# Altium schematic symbol library Seeed-OPL-ic.SCHLIB: 210 symbols (part 1 of 2)
Pins are listed as number, name and electrical type; pins without a type are passive.

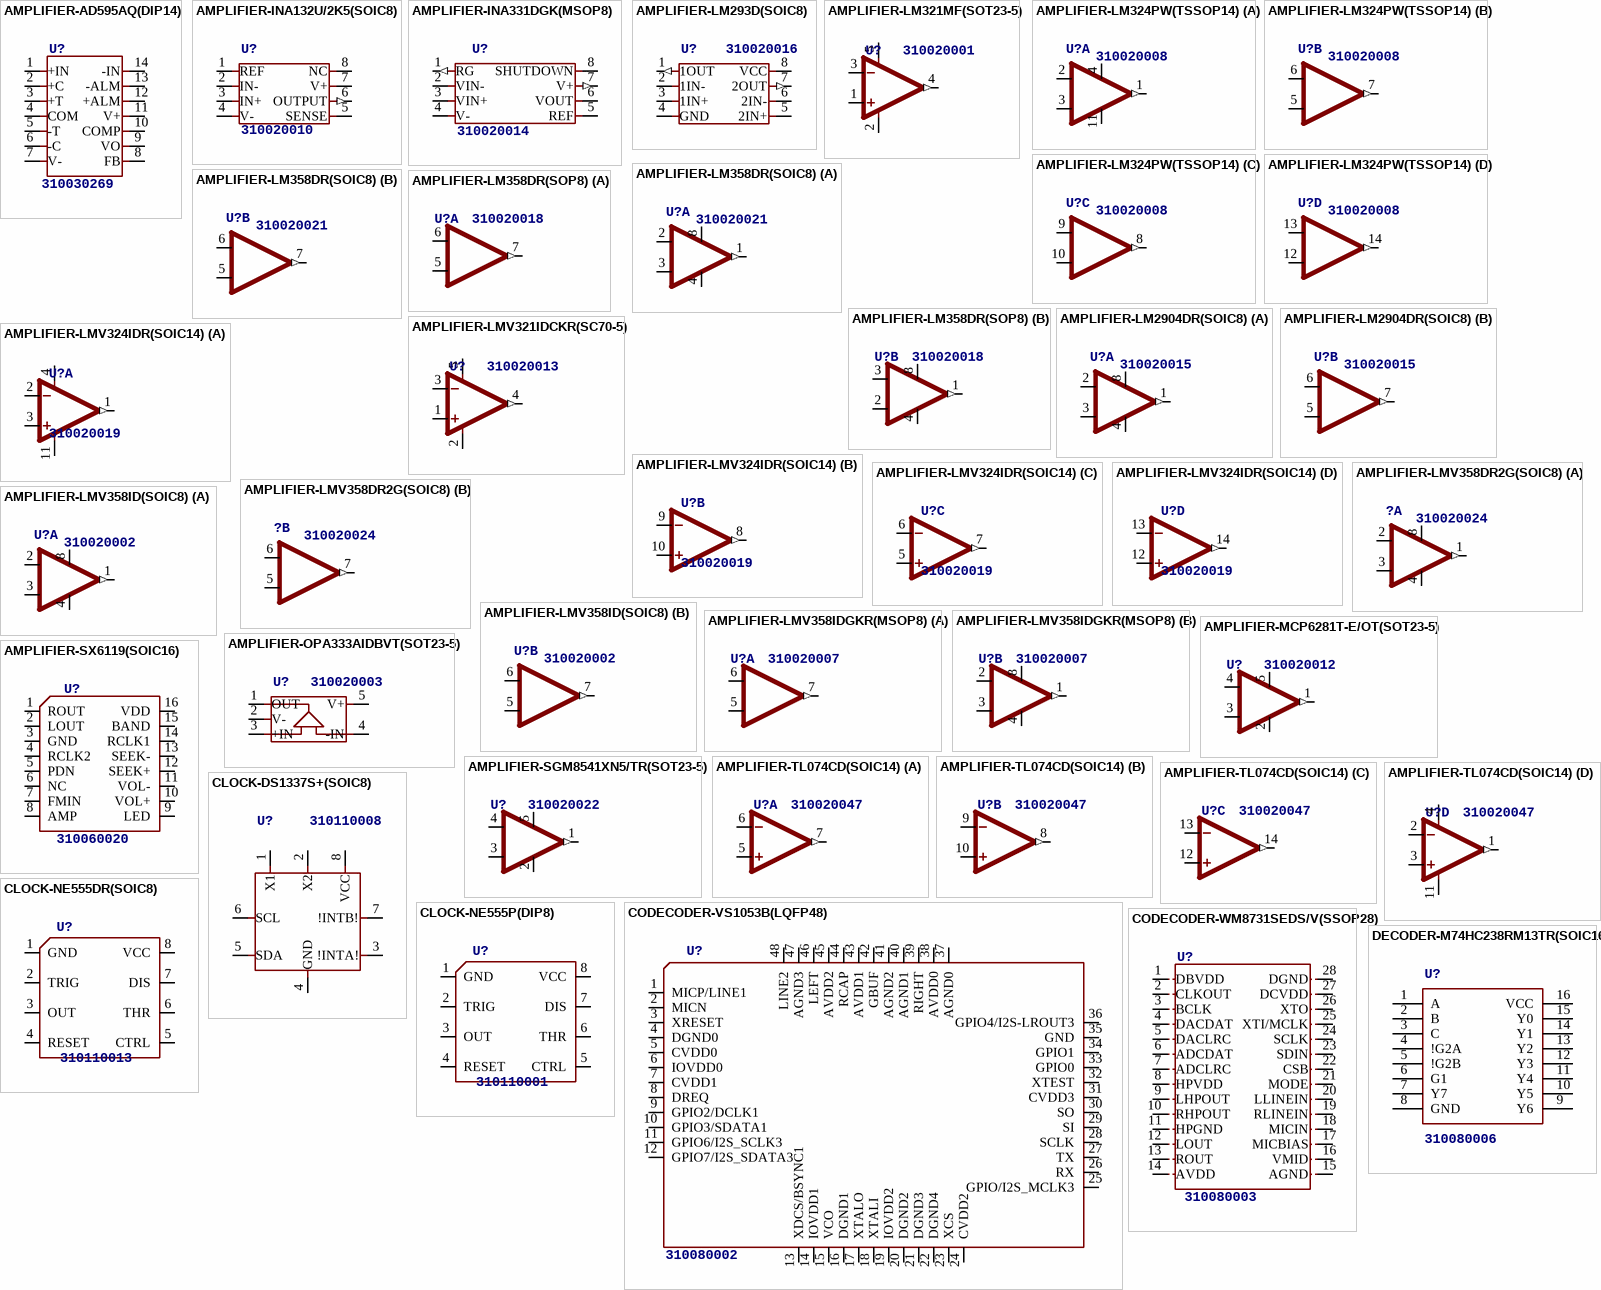
[diagram p0: symbols AMPLIFIER-AD595AQ(DIP14) to DECODER-M74HC238RM13TR(SOIC16)]

## AMPLIFIER-AD595AQ(DIP14)
designator U?, comment 310030269
MPN: AD595AQ
footprint DIP14-2.54-17.24X6.35MM
pins: 1 +IN, 2 +C, 3 +T, 4 COM, 5 -T, 6 -C, 7 V-, 8 FB, 9 VO, 10 COMP, 11 V+, 12 +ALM, 13 -ALM, 14 -IN

## AMPLIFIER-INA132U/2K5(SOIC8)
designator U?, comment 310020010
MPN: INA132U/2K5
footprint SOIC8-1.27-5X4MM
pins: 1 REF, 2 IN-, 3 IN+, 4 V- (power), 5 SENSE, 6 OUTPUT (out), 7 V+ (power), 8 NC (oe)

## AMPLIFIER-INA331DGK(MSOP8)
designator U?, comment 310020014
MPN: INA331IDGK
footprint MSOP8-0.65-3X3MM
pins: 1 RG (out), 2 VIN-, 3 VIN+, 4 V- (oe), 5 REF, 6 VOUT, 7 V+ (out), 8 SHUTDOWN (oe)

## AMPLIFIER-LM293D(SOIC8)
designator U?, comment 310020016
MPN: LM293D
footprint SOIC8-1.27-5X4MM
pins: 1 1OUT (out), 2 1IN-, 3 1IN+, 4 GND (oe), 5 2IN+, 6 2IN-, 7 2OUT (out), 8 VCC (oe)

## AMPLIFIER-LM321MF(SOT23-5)
designator U?, comment 310020001
MPN: LM321MF
footprint SOT-23-5
pins: 1 IN+, 2 V- (power), 3 IN-, 4 OUT (out), 5 V+ (power)

## AMPLIFIER-LM324PW(TSSOP14)
designator U?, comment 310020008
MPN: LM324PW
footprint TSSOP14-0.65-5X4.4MM
part A pins: 1 OUT1 (out), 2 -IN1, 3 +IN1, 4 +V (power), 11 GND (power)
part B pins: 5 +IN2, 6 -IN2, 7 OUT2 (out)
part C pins: 8 OUT2 (out), 9 -IN2, 10 +IN2
part D pins: 12 +IN2, 13 -IN2, 14 OUT2 (out)

## AMPLIFIER-LM358DR(SOIC8)
designator U?, comment 310020021
MPN: LM358DR
footprint SOIC8-1.27-5X4MM
part A pins: 1 OUT1 (out), 2 -IN1, 3 +IN1, 4 GND (power), 8 +V (power)
part B pins: 5 +IN2, 6 -IN2, 7 OUT2 (out)

## AMPLIFIER-LM358DR(SOP8)
designator U?, comment 310020018
MPN: LM358DR
footprint SOIC8-1.27-5X4MM
part A pins: 5 +IN2, 6 -IN2, 7 OUT2 (out)
part B pins: 1 OUT1 (out), 2 +IN1, 3 -IN1, 4 GND (power), 8 +V (power)

## AMPLIFIER-LM2904DR(SOIC8)
designator U?, comment 310020015
MPN: LM2904DR
footprint SOIC8-1.27-5X4MM
part A pins: 1 OUT1 (out), 2 -IN1, 3 +IN1, 4 GND (power), 8 +V (power)
part B pins: 5 +IN2, 6 -IN2, 7 OUT2 (out)

## AMPLIFIER-LMV321IDCKR(SC70-5)
designator U?, comment 310020013
MPN: LMV321IDCKR
footprint SC-70-5
pins: 1 IN+, 2 V- (power), 3 IN-, 4 OUT (out), 5 V+ (power)

## AMPLIFIER-LMV324IDR(SOIC14)
designator U?, comment 310020019
MPN: LMV324IDR
footprint SOIC14-1.27-9.3X4.3MM
part A pins: 1 OUT (out), 2 IN-, 3 IN+, 4 V+ (power), 11 V- (power)
part B pins: 8 OUT (out), 9 IN-, 10 IN+
part C pins: 5 IN+, 6 IN-, 7 OUT (out)
part D pins: 12 IN+, 13 IN-, 14 OUT (out)

## AMPLIFIER-LMV358DR2G(SOIC8)
designator ?, comment 310020024
MPN: LMV358DR2G
footprint SOIC8-1.27-5X4MM
part A pins: 1 OUT1 (out), 2 -IN1, 3 +IN1, 4 GND (power), 8 +V (power)
part B pins: 5 +IN2, 6 -IN2, 7 OUT2 (out)

## AMPLIFIER-LMV358ID(SOIC8)
designator U?, comment 310020002
MPN: LMV358ID
footprint SOIC8-1.27-5X4MM
part A pins: 1 OUT1 (out), 2 -IN1, 3 +IN1, 4 GND (power), 8 +V (power)
part B pins: 5 +IN2, 6 -IN2, 7 OUT2 (out)

## AMPLIFIER-LMV358IDGKR(MSOP8)
designator U?, comment 310020007
MPN: LMV358IDGKR
footprint MSOP8-0.5-2X2.3MM
part A pins: 5 +IN2, 6 -IN2, 7 OUT2 (out)
part B pins: 1 OUT1 (out), 2 -IN1, 3 +IN1, 4 GND (power), 8 +V (power)

## AMPLIFIER-MCP6281T-E/OT(SOT23-5)
designator U?, comment 310020012
MPN: MCP6281T-E/OT
footprint SOT-23-5
pins: 1 OUT1 (out), 2 GND (power), 3 +IN1, 4 -IN1, 5 +V (power)

## AMPLIFIER-OPA333AIDBVT(SOT23-5)
designator U?, comment 310020003
MPN: OPA333AIDBVT
footprint SOT-23-5
pins: 1 OUT, 2 V-, 3 +IN, 4 -IN, 5 V+

## AMPLIFIER-SGM8541XN5/TR(SOT23-5)
designator U?, comment 310020022
MPN: SGM8541XN5/TR
footprint SOT-23-5
pins: 1 OUT1 (out), 2 GND (power), 3 +IN1, 4 -IN1, 5 +V (power)

## AMPLIFIER-SX6119(SOIC16)
designator U?, comment 310060020
MPN: SX6119
footprint SOIC16-1.27-10X3.9MM
pins: 1 ROUT, 2 LOUT, 3 GND, 4 RCLK2, 5 PDN, 6 NC, 7 FMIN, 8 AMP, 9 LED, 10 VOL+, 11 VOL-, 12 SEEK+, 13 SEEK-, 14 RCLK1, 15 BAND, 16 VDD

## AMPLIFIER-TL074CD(SOIC14)
designator U?, comment 310020047
MPN: TL074CD
footprint SOIC14-1.27-9.3X4.3MM
part A pins: 5 IN+, 6 IN-, 7 OUT (out)
part B pins: 8 OUT (out), 9 IN-, 10 IN+
part C pins: 12 IN+, 13 IN-, 14 OUT (out)
part D pins: 1 OUT (out), 2 IN-, 3 IN+, 4 V+ (power), 11 V- (power)

## CLOCK-DS1337S+(SOIC8)
designator U?, comment 310110008
MPN: DS1337S+
footprint SOIC8-1.27-5X4MM
pins: 1 X1, 2 X2, 3 !INTA!, 4 GND, 5 SDA, 6 SCL, 7 !INTB!, 8 VCC

## CLOCK-NE555DR(SOIC8)
designator U?, comment 310110013
MPN: NE555DR
footprint SOIC8-1.27-5X4MM
pins: 1 GND, 2 TRIG, 3 OUT, 4 RESET, 5 CTRL, 6 THR, 7 DIS, 8 VCC

## CLOCK-NE555P(DIP8)
designator U?, comment 310110001
MPN: NE555P
footprint DIP8-2.54-10.9X6.6MM
pins: 1 GND, 2 TRIG, 3 OUT, 4 RESET, 5 CTRL, 6 THR, 7 DIS, 8 VCC

## CODECODER-VS1053B(LQFP48)
designator U?, comment 310080002
MPN: VS1053B
footprint LQFP48-0.5-7X7MM
pins: 1 MICP/LINE1, 2 MICN, 3 XRESET, 4 DGND0 (oe), 5 CVDD0 (power), 6 IOVDD0 (power), 7 CVDD1 (power), 8 DREQ, 9 GPIO2/DCLK1, 10 GPIO3/SDATA1, 11 GPIO6/I2S_SCLK3, 12 GPIO7/I2S_SDATA3, 13 XDCS/BSYNC1, 14 IOVDD1 (power), 15 VCO (power), 16 DGND1 (oe), 17 XTALO, 18 XTALI, 19 IOVDD2 (power), 20 DGND2 (oe), 21 DGND3 (oe), 22 DGND4 (oe), 23 XCS, 24 CVDD2 (power), 25 GPIO/I2S_MCLK3, 26 RX, 27 TX, 28 SCLK, 29 SI, 30 SO, 31 CVDD3 (power), 32 XTEST, 33 GPIO0, 34 GPIO1, 35 GND (oe), 36 GPIO4/I2S-LROUT3, 37 AGND0 (oe), 38 AVDD0 (oe), 39 RIGHT, 40 AGND1 (oe), 41 AGND2 (oe), 42 GBUF, 43 AVDD1 (power), 44 RCAP, 45 AVDD2 (power), 46 LEFT, 47 AGND3 (oe), 48 LINE2

## CODECODER-WM8731SEDS/V(SSOP28)
designator U?, comment 310080003
MPN: WM8731SEDS/V
footprint SSOP28-0.65-10.2X5.2MM
pins: 1 DBVDD (power), 2 CLKOUT, 3 BCLK, 4 DACDAT, 5 DACLRC, 6 ADCDAT, 7 ADCLRC, 8 HPVDD (power), 9 LHPOUT, 10 RHPOUT, 11 HPGND, 12 LOUT, 13 ROUT, 14 AVDD (power), 15 AGND (oe), 16 VMID, 17 MICBIAS, 18 MICIN, 19 RLINEIN, 20 LLINEIN, 21 MODE, 22 CSB, 23 SDIN, 24 SCLK, 25 XTI/MCLK, 26 XTO, 27 DCVDD (power), 28 DGND (oe)

## DECODER-M74HC238RM13TR(SOIC16)
designator U?, comment 310080006
MPN: M74HC238RM13TR
footprint SOIC16-1.27-10X3.9MM
pins: 1 A, 2 B, 3 C, 4 !G2A, 5 !G2B, 6 G1, 7 Y7, 8 GND, 9 Y6, 10 Y5, 11 Y4, 12 Y3, 13 Y2, 14 Y1, 15 Y0, 16 VCC

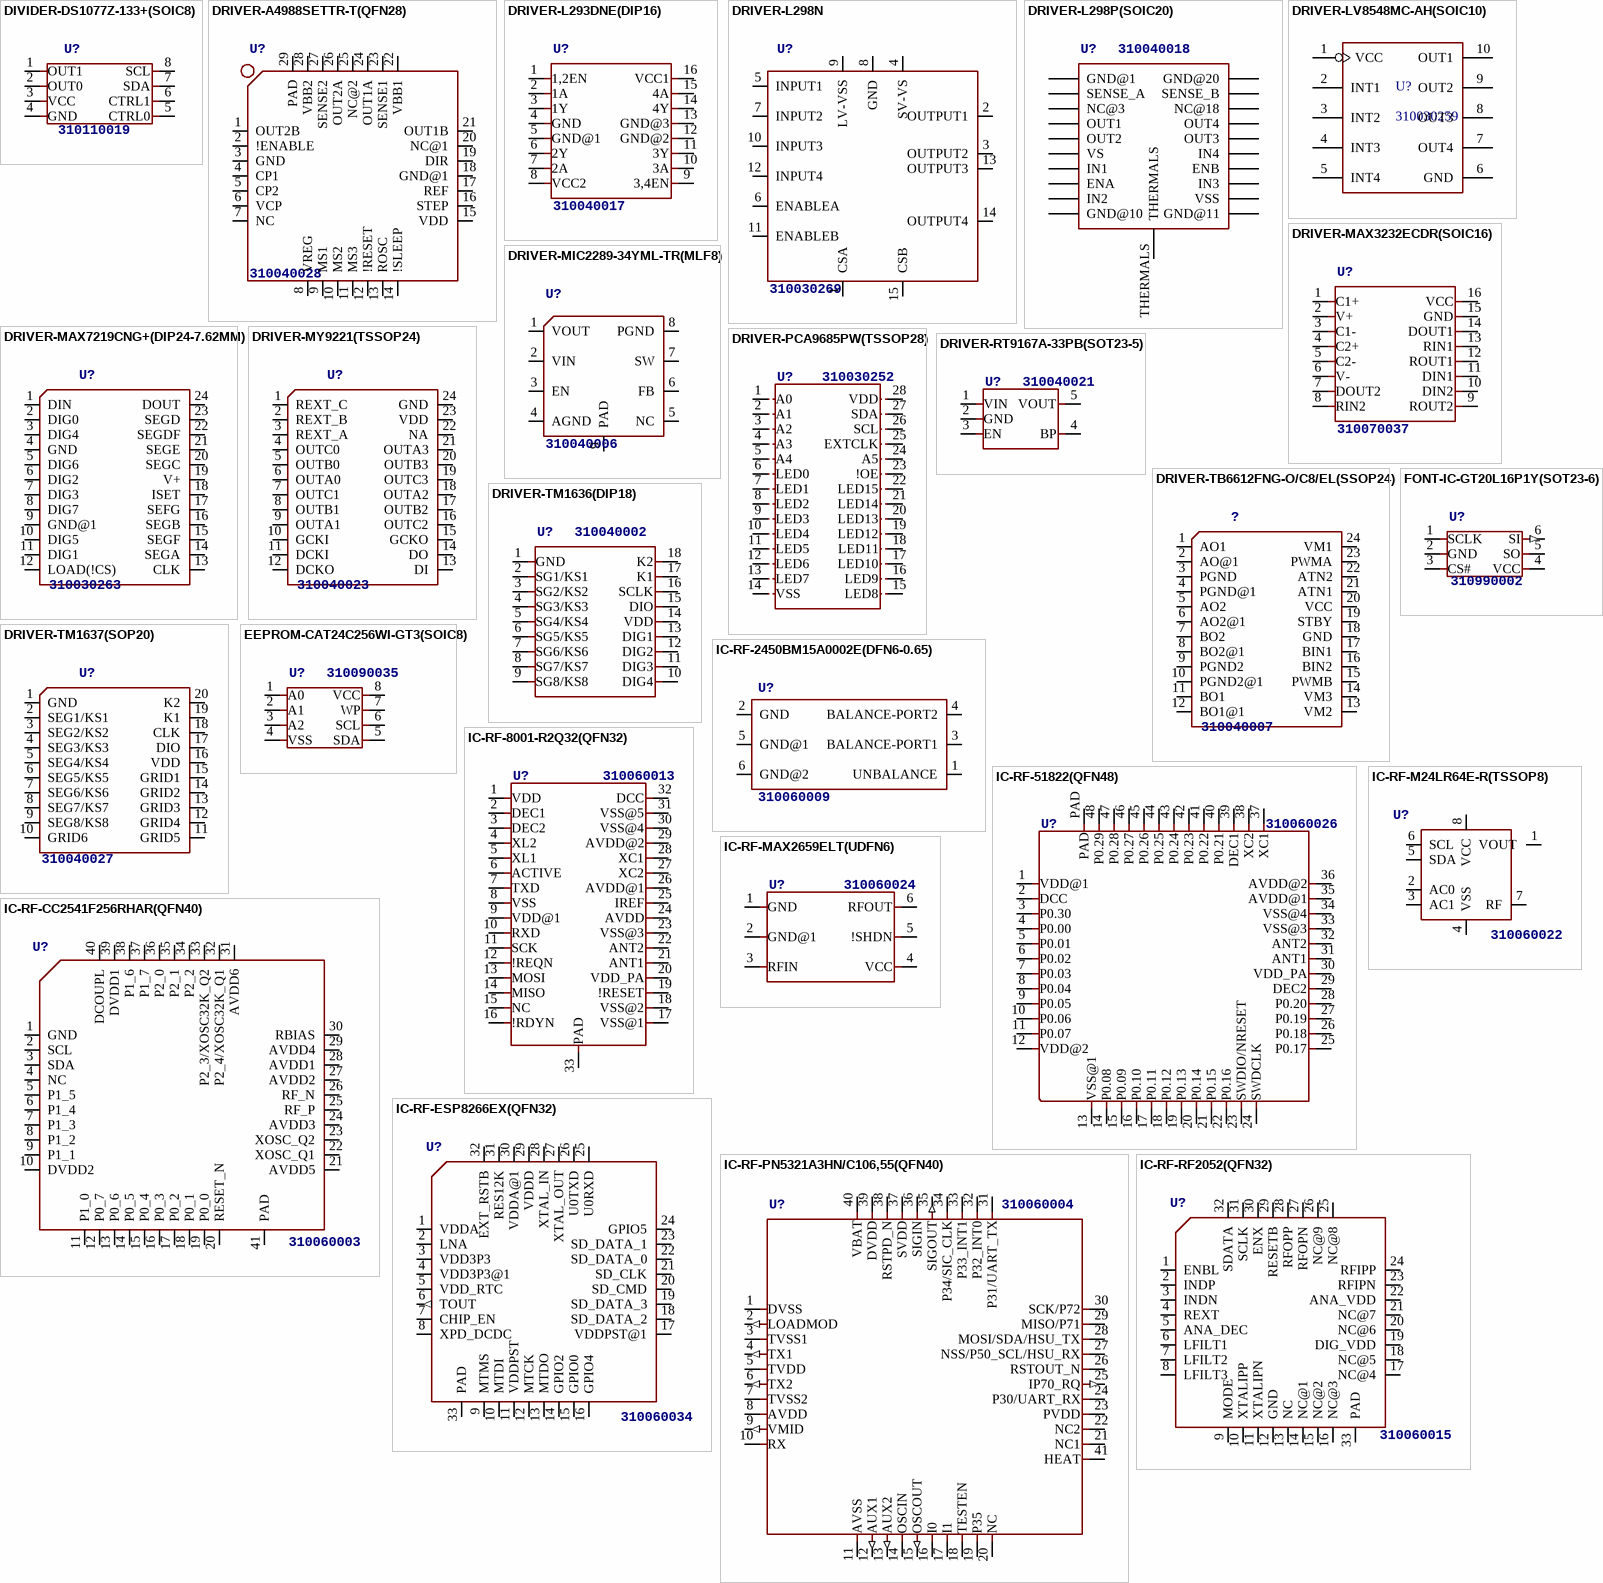
[diagram p1: symbols DIVIDER-DS1077Z-133+(SOIC8) to IC-RF-RF2052(QFN32)]

## DIVIDER-DS1077Z-133+(SOIC8)
designator U?, comment 310110019
MPN: DS1077Z-133+
footprint SOIC8-1.27-5X4MM
pins: 1 OUT1, 2 OUT0, 3 VCC, 4 GND, 5 CTRL0, 6 CTRL1, 7 SDA, 8 SCL

## DRIVER-A4988SETTR-T(QFN28)
designator U?, comment 310040028
MPN: A4988SETTR-T
footprint QFN28G_0.5-5X5MM
pins: 1 OUT2B, 2 !ENABLE, 3 GND, 4 CP1, 5 CP2, 6 VCP, 7 NC, 8 VREG, 9 MS1, 10 MS2, 11 MS3, 12 !RESET, 13 ROSC, 14 !SLEEP, 15 VDD, 16 STEP, 17 REF, 18 GND@1, 19 DIR, 20 NC@1, 21 OUT1B, 22 VBB1, 23 SENSE1, 24 OUT1A, 25 NC@2, 26 OUT2A, 27 SENSE2, 28 VBB2, 29 PAD

## DRIVER-L293DNE(DIP16)
designator U?, comment 310040017
MPN: L293DNE
footprint DIP16-2.54-19.2X7.62MM
pins: 1 1,2EN, 2 1A, 3 1Y, 4 GND, 5 GND@1, 6 2Y, 7 2A, 8 VCC2, 9 3,4EN, 10 3A, 11 3Y, 12 GND@2, 13 GND@3, 14 4Y, 15 4A, 16 VCC1

## DRIVER-L298N
designator U?, comment 310030269
MPN: L298N
footprint MULTIWATT15-V
pins: 1 CSA, 2 OUTPUT1, 3 OUTPUT2, 4 SV-VS, 5 INPUT1, 6 ENABLEA, 7 INPUT2, 8 GND, 9 LV-VSS, 10 INPUT3, 11 ENABLEB, 12 INPUT4, 13 OUTPUT3, 14 OUTPUT4, 15 CSB

## DRIVER-L298P(SOIC20)
designator U?, comment 310040018
MPN: L298P
footprint SOIC20G-1.27-16X11MM
pins: P$1 GND@1, P$2 SENSE_A, P$3 NC@3, P$4 OUT1, P$5 OUT2, P$6 VS, P$7 IN1, P$8 ENA, P$9 IN2, P$10 GND@10, P$11 GND@11, P$12 VSS, P$13 IN3, P$14 ENB, P$15 IN4, P$16 OUT3, P$17 OUT4, P$18 NC@18, P$19 SENSE_B, P$20 GND@20, THERMALS

## DRIVER-LV8548MC-AH(SOIC10)
designator U?, comment 310030259
MPN: LV8548MC-AH
footprint SOIC10-1.0-5X4MM
pins: 1 VCC, 2 INT1, 3 INT2, 4 INT3, 5 INT4, 6 GND, 7 OUT4, 8 OUT3, 9 OUT2, 10 OUT1

## DRIVER-MAX3232ECDR(SOIC16)
designator U?, comment 310070037
MPN: MAX3232ECDR
footprint SOIC16-1.27-10X3.9MM
pins: 1 C1+, 2 V+, 3 C1-, 4 C2+, 5 C2-, 6 V-, 7 DOUT2, 8 RIN2, 9 ROUT2, 10 DIN2, 11 DIN1, 12 ROUT1, 13 RIN1, 14 DOUT1, 15 GND (oe), 16 VCC (power)

## DRIVER-MAX7219CNG+(DIP24-7.62MM)
designator U?, comment 310030263
MPN: MAX7219CNG+
footprint DIP24-2.54-30.6X7.62MM
pins: 1 DIN, 2 DIG0, 3 DIG4, 4 GND, 5 DIG6, 6 DIG2, 7 DIG3, 8 DIG7, 9 GND@1, 10 DIG5, 11 DIG1, 12 LOAD(!CS), 13 CLK, 14 SEGA, 15 SEGF, 16 SEGB, 17 SEFG, 18 ISET, 19 V+, 20 SEGC, 21 SEGE, 22 SEGDF, 23 SEGD, 24 DOUT

## DRIVER-MIC2289-34YML-TR(MLF8)
designator U?, comment 310040006
MPN: MIC2289-34YML-TR
footprint DFN8G-0.5-2X2MM
pins: 1 VOUT, 2 VIN, 3 EN, 4 AGND, 5 NC, 6 FB, 7 SW, 8 PGND, 9 PAD

## DRIVER-MY9221(TSSOP24)
designator U?, comment 310040023
MPN: MY9221
footprint TSSOP24-0.65-7.8X4.4MM
pins: 1 REXT_C, 2 REXT_B, 3 REXT_A, 4 OUTC0, 5 OUTB0, 6 OUTA0, 7 OUTC1, 8 OUTB1, 9 OUTA1, 10 GCKI, 11 DCKI, 12 DCKO, 13 DI, 14 DO, 15 GCKO, 16 OUTC2, 17 OUTB2, 18 OUTA2, 19 OUTC3, 20 OUTB3, 21 OUTA3, 22 NA, 23 VDD, 24 GND

## DRIVER-PCA9685PW(TSSOP28)
designator U?, comment 310030252
MPN: PCA9685PW
footprint TSSOP28-0.65-9.7X4.4MM
pins: 1 A0, 2 A1, 3 A2, 4 A3, 5 A4, 6 LED0, 7 LED1, 8 LED2, 9 LED3, 10 LED4, 11 LED5, 12 LED6, 13 LED7, 14 VSS, 15 LED8, 16 LED9, 17 LED10, 18 LED11, 19 LED12, 20 LED13, 21 LED14, 22 LED15, 23 !OE, 24 A5, 25 EXTCLK, 26 SCL, 27 SDA, 28 VDD

## DRIVER-RT9167A-33PB(SOT23-5)
designator U?, comment 310040021
MPN: RT9167A-33PB
footprint SOT-23-5
pins: 1 VIN, 2 GND, 3 EN, 4 BP, 5 VOUT

## DRIVER-TB6612FNG-O/C8/EL(SSOP24)
designator ?, comment 310040007
MPN: TB6612FNG-O/C8/EL
footprint SSOP24-0.65-8.9X5.3MM
pins: 1 AO1, 2 AO@1, 3 PGND, 4 PGND@1, 5 AO2, 6 AO2@1, 7 BO2, 8 BO2@1, 9 PGND2, 10 PGND2@1, 11 BO1, 12 BO1@1, 13 VM2, 14 VM3, 15 PWMB, 16 BIN2, 17 BIN1, 18 GND, 19 STBY, 20 VCC, 21 ATN1, 22 ATN2, 23 PWMA, 24 VM1

## DRIVER-TM1636(DIP18)
designator U?, comment 310040002
MPN: TM1636
footprint DIP18-2.54-22.8X7.62MM
pins: 1 GND, 2 SG1/KS1, 3 SG2/KS2, 4 SG3/KS3, 5 SG4/KS4, 6 SG5/KS5, 7 SG6/KS6, 8 SG7/KS7, 9 SG8/KS8, 10 DIG4, 11 DIG3, 12 DIG2, 13 DIG1, 14 VDD, 15 DIO, 16 SCLK, 17 K1, 18 K2

## DRIVER-TM1637(SOP20)
designator U?, comment 310040027
MPN: TM1637
footprint SOP20-1.27-12.7X7.65MM
pins: 1 GND, 2 SEG1/KS1, 3 SEG2/KS2, 4 SEG3/KS3, 5 SEG4/KS4, 6 SEG5/KS5, 7 SEG6/KS6, 8 SEG7/KS7, 9 SEG8/KS8, 10 GRID6, 11 GRID5, 12 GRID4, 13 GRID3, 14 GRID2, 15 GRID1, 16 VDD, 17 DIO, 18 CLK, 19 K1, 20 K2

## EEPROM-CAT24C256WI-GT3(SOIC8)
designator U?, comment 310090035
MPN: CAT24C256WI-GT3
footprint SOIC8-1.27-5X4MM
pins: 1 A0, 2 A1, 3 A2, 4 VSS, 5 SDA, 6 SCL, 7 WP, 8 VCC

## FONT-IC-GT20L16P1Y(SOT23-6)
designator U?, comment 310990002
MPN: GT20L16P1Y
footprint SOT-23-6
pins: 1 SCLK, 2 GND (oe), 3 CS#, 4 VCC (power), 5 SO, 6 SI (out)

## IC-RF-2450BM15A0002E(DFN6-0.65)
designator U?, comment 310060009
MPN: 2450BM15A0002E
footprint DFN6-0.65-2X1.25X0.7MM
pins: 1 UNBALANCE, 2 GND (oe), 3 BALANCE-PORT1, 4 BALANCE-PORT2, 5 GND@1 (oe), 6 GND@2 (oe)

## IC-RF-8001-R2Q32(QFN32)
designator U?, comment 310060013
MPN: 8001-R2Q32
footprint QFN32G-0.5-5X5MM
pins: 1 VDD, 2 DEC1, 3 DEC2, 4 XL2, 5 XL1, 6 ACTIVE, 7 TXD, 8 VSS, 9 VDD@1, 10 RXD, 11 SCK, 12 !REQN, 13 MOSI, 14 MISO, 15 NC, 16 !RDYN, 17 VSS@1, 18 VSS@2, 19 !RESET, 20 VDD_PA, 21 ANT1, 22 ANT2, 23 VSS@3, 24 AVDD, 25 IREF, 26 AVDD@1, 27 XC2, 28 XC1, 29 AVDD@2, 30 VSS@4, 31 VSS@5, 32 DCC, 33 PAD

## IC-RF-51822(QFN48)
designator U?, comment 310060026
MPN: RF-51822
footprint QFN48G-0.4-6X6MM
pins: 1 VDD@1, 2 DCC, 3 P0.30, 4 P0.00, 5 P0.01, 6 P0.02, 7 P0.03, 8 P0.04, 9 P0.05, 10 P0.06, 11 P0.07, 12 VDD@2, 13 VSS@1, 14 P0.08, 15 P0.09, 16 P0.10, 17 P0.11, 18 P0.12, 19 P0.13, 20 P0.14, 21 P0.15, 22 P0.16, 23 SWDIO/NRESET, 24 SWDCLK, 25 P0.17, 26 P0.18, 27 P0.19, 28 P0.20, 29 DEC2, 30 VDD_PA, 31 ANT1, 32 ANT2, 33 VSS@3, 34 VSS@4, 35 AVDD@1, 36 AVDD@2, 37 XC1, 38 XC2, 39 DEC1, 40 P0.21, 41 P0.22, 42 P0.23, 43 P0.24, 44 P0.25, 45 P0.26, 46 P0.27, 47 P0.28, 48 P0.29, PAD

## IC-RF-CC2541F256RHAR(QFN40)
designator U?, comment 310060003
MPN: CC2541F256RHAR
footprint QFN40G-0.5-6X6MM
pins: 1 GND (oe), 2 SCL, 3 SDA, 4 NC, 5 P1_5, 6 P1_4, 7 P1_3, 8 P1_2, 9 P1_1, 10 DVDD2 (power), 11 P1_0, 12 P0_7, 13 P0_6, 14 P0_5, 15 P0_4, 16 P0_3, 17 P0_2, 18 P0_1, 19 P0_0, 20 RESET_N, 21 AVDD5 (power), 22 XOSC_Q1, 23 XOSC_Q2, 24 AVDD3 (power), 25 RF_P, 26 RF_N, 27 AVDD2 (power), 28 AVDD1 (power), 29 AVDD4 (power), 30 RBIAS, 31 AVDD6 (power), 32 P2_4/XOSC32K_Q1, 33 P2_3/XOSC32K_Q2, 34 P2_2, 35 P2_1, 36 P2_0, 37 P1_7, 38 P1_6, 39 DVDD1 (power), 40 DCOUPL, 41 PAD (oe)

## IC-RF-ESP8266EX(QFN32)
designator U?, comment 310060034
MPN: ESP8266EX
footprint QFN32G-0.5-5X5MM
pins: 1 VDDA (power), 2 LNA, 3 VDD3P3 (power), 4 VDD3P3@1 (power), 5 VDD_RTC, 6 TOUT (out), 7 CHIP_EN, 8 XPD_DCDC, 9 MTMS, 10 MTDI, 11 VDDPST, 12 MTCK, 13 MTDO, 14 GPIO2, 15 GPIO0, 16 GPIO4, 17 VDDPST@1, 18 SD_DATA_2, 19 SD_DATA_3, 20 SD_CMD, 21 SD_CLK, 22 SD_DATA_0, 23 SD_DATA_1, 24 GPIO5, 25 U0RXD, 26 U0TXD, 27 XTAL_OUT, 28 XTAL_IN, 29 VDDD, 30 VDDA@1, 31 RES12K, 32 EXT_RSTB, 33 PAD

## IC-RF-M24LR64E-R(TSSOP8)
designator U?, comment 310060022
MPN: M24LR64E-R
footprint TSSOP8-0.65-3X4.4MM
pins: 1 VOUT, 2 AC0, 3 AC1, 4 VSS, 5 SDA, 6 SCL, 7 RF, 8 VCC

## IC-RF-MAX2659ELT(UDFN6)
designator U?, comment 310060024
MPN: MAX2659ELT
footprint DFN6-0.5-1.5X1.0X0.72MM
pins: 1 GND (oe), 2 GND@1 (oe), 3 RFIN, 4 VCC, 5 !SHDN, 6 RFOUT

## IC-RF-PN5321A3HN/C106,55(QFN40)
designator U?, comment 310060004
MPN: RF-PN5321A3HN/C106,55
footprint QFN40G-0.5-6X6MM
pins: 1 DVSS (oe), 2 LOADMOD (out), 3 TVSS1 (oe), 4 TX1 (out), 5 TVDD (oe), 6 TX2 (out), 7 TVSS2 (oe), 8 AVDD (oe), 9 VMID (out), 10 RX, 11 AVSS (oe), 12 AUX1 (out), 13 AUX2 (out), 14 OSCIN, 15 OSCOUT (out), 16 I0, 17 I1, 18 TESTEN, 19 P35, 20 NC, 21 NC1, 22 NC2, 23 PVDD (oe), 24 P30/UART_RX, 25 IP70_RQ (out), 26 RSTOUT_N, 27 NSS/P50_SCL/HSU_RX, 28 MOSI/SDA/HSU_TX, 29 MISO/P71, 30 SCK/P72, 31 P31/UART_TX, 32 P32_INT0, 33 P33_INT1, 34 P34/SIC_CLK, 35 SIGOUT (out), 36 SIGIN, 37 SVDD (oe), 38 RSTPD_N, 39 DVDD (oe), 40 VBAT (oe), 41 HEAT

## IC-RF-RF2052(QFN32)
designator U?, comment 310060015
MPN: RF2052
footprint QFN32G-0.5-5X5MM
pins: 1 ENBL, 2 INDP, 3 INDN, 4 REXT, 5 ANA_DEC, 6 LFILT1, 7 LFILT2, 8 LFILT3, 9 MODE, 10 XTALIPP, 11 XTALIPN, 12 GND, 13 NC, 14 NC@1, 15 NC@2, 16 NC@3, 17 NC@4, 18 NC@5, 19 DIG_VDD, 20 NC@6, 21 NC@7, 22 ANA_VDD, 23 RFIPN, 24 RFIPP, 25 NC@8, 26 NC@9, 27 RFOPN, 28 RFOPP, 29 RESETB, 30 ENX, 31 SCLK, 32 SDATA, 33 PAD

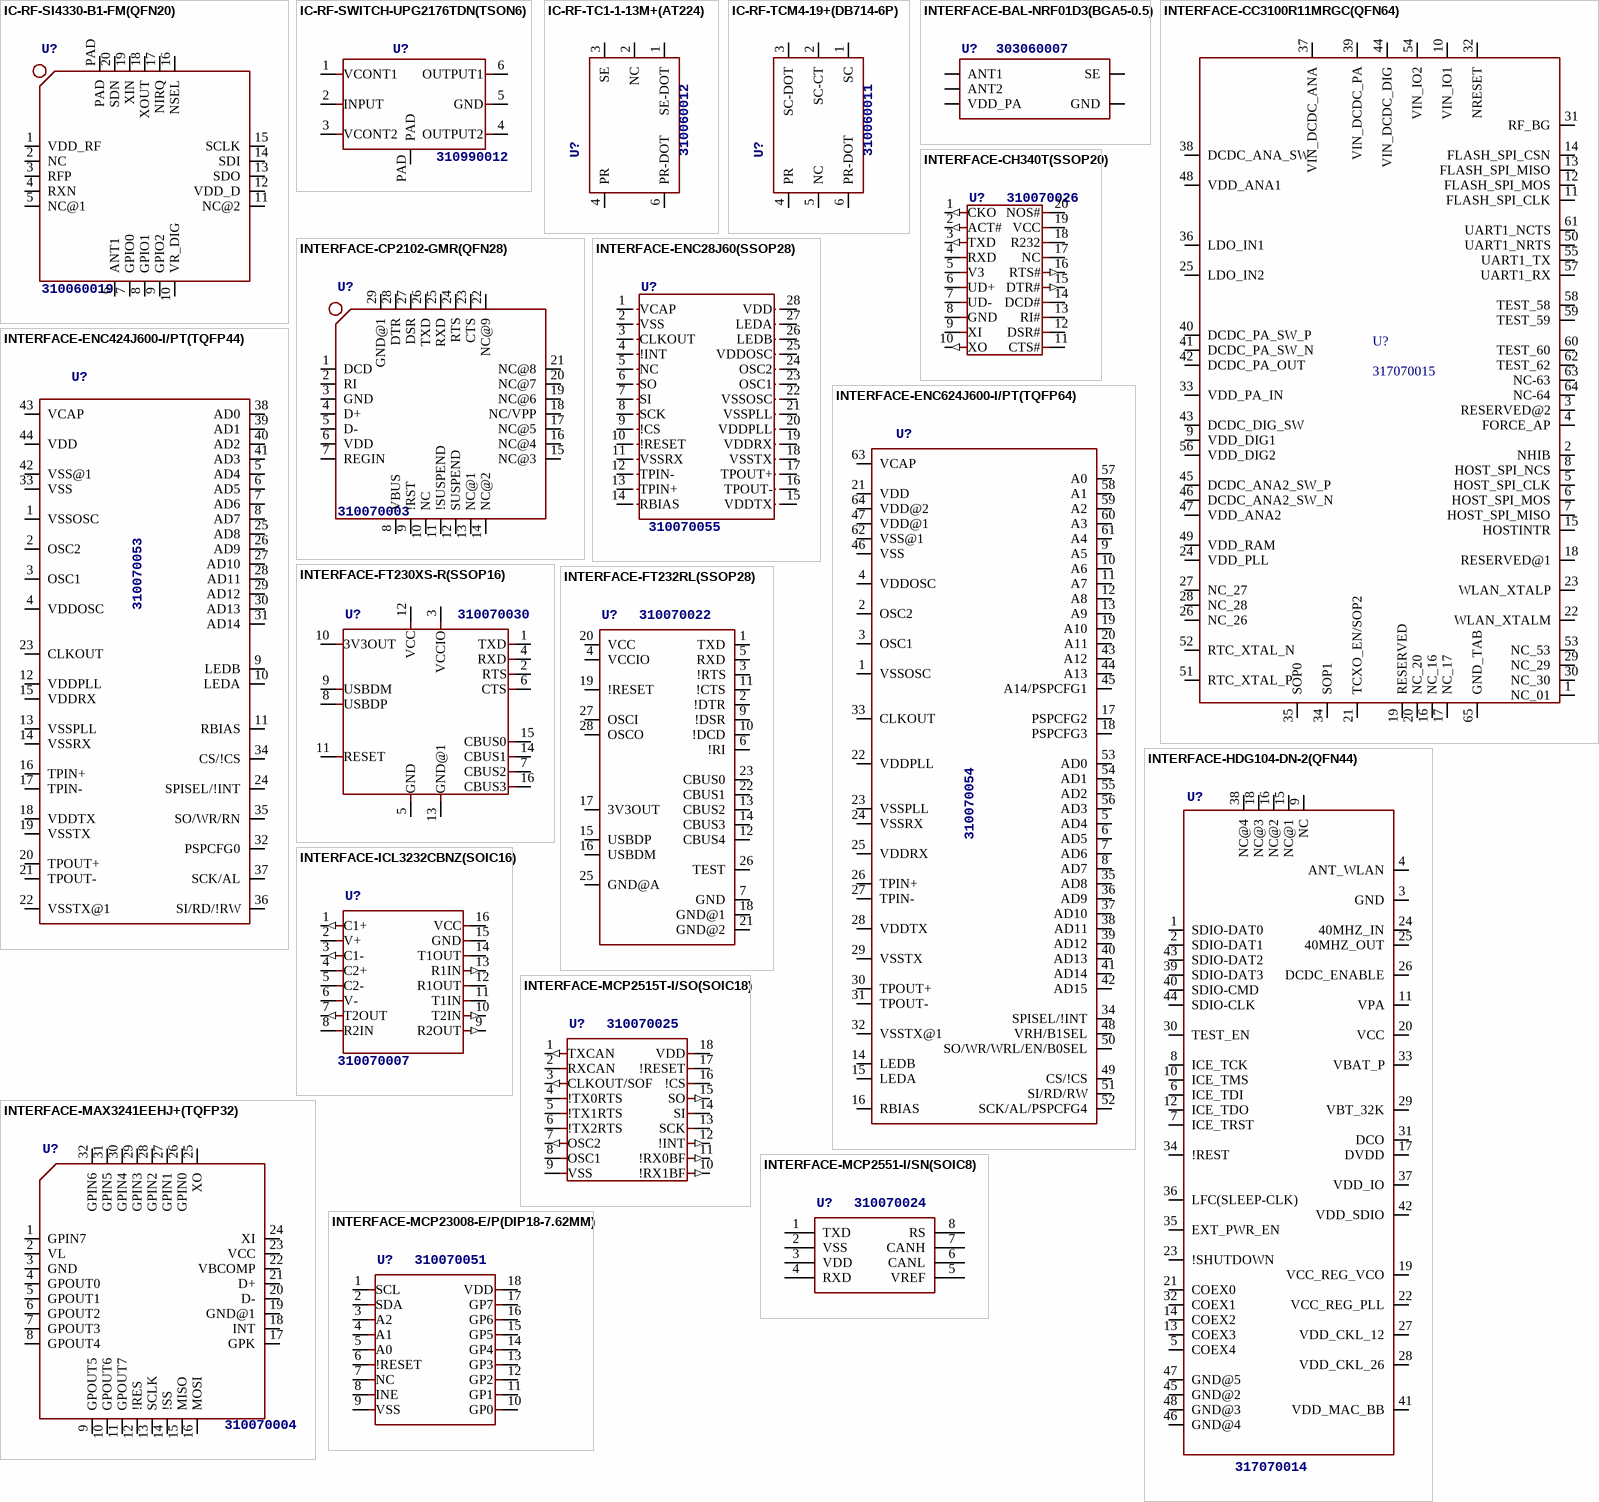
[diagram p2: symbols IC-RF-SI4330-B1-FM(QFN20) to INTERFACE-MCP23008-E/P(DIP18-7.62MM)]

## IC-RF-SI4330-B1-FM(QFN20)
designator U?, comment 310060019
MPN: SI4330-B1-FM
footprint QFN20G-0.5-4X4MM
pins: 1 VDD_RF, 2 NC, 3 RFP, 4 RXN, 5 NC@1, 6 ANT1, 7 GPIO0, 8 GPIO1, 9 GPIO2, 10 VR_DIG, 11 NC@2, 12 VDD_D, 13 SDO, 14 SDI, 15 SCLK, 16 NSEL, 17 NIRQ, 18 XOUT, 19 XIN, 20 SDN, PAD

## IC-RF-SWITCH-UPG2176TDN(TSON6)
designator U?, comment 310990012
MPN: uPG2176T5N
footprint TSON6-0.5-1.5X1.5X0.4MM
pins: 1 VCONT1 (oe), 2 INPUT, 3 VCONT2, 4 OUTPUT2, 5 GND (oe), 6 OUTPUT1, PAD (oe)

## IC-RF-TC1-1-13M+(AT224)
designator U?, comment 310060012
MPN: TC1-1-13M+
footprint AT224-SMD-1.27-3.81X3.81MM
pins: 1 SE-DOT, 2 NC, 3 SE, 4 PR, 6 PR-DOT

## IC-RF-TCM4-19+(DB714-6P)
designator U?, comment 310060011
MPN: TCM4-19+
footprint DB714-6P-1.27-4.06X3.81X4.06MM
pins: 1 SC, 2 SC-CT, 3 SC-DOT, 4 PR, 5 NC, 6 PR-DOT

## INTERFACE-BAL-NRF01D3(BGA5-0.5)
designator U?, comment 303060007
MPN: BAL-NRF01D3
footprint BGA5-0.5-1.5X1MM
pins: ANT1, ANT2, GND, SE, VCC VDD_PA

## INTERFACE-CC3100R11MRGC(QFN64)
designator U?, comment 317070015
MPN: CC3100R11MRGC
footprint QFN64G-0.5-9X9MM
pins: 1 NC_01, 2 NHIB, 3 RESERVED@2, 4 FORCE_AP, 5 HOST_SPI_CLK, 6 HOST_SPI_MOS, 7 HOST_SPI_MISO, 8 HOST_SPI_NCS, 9 VDD_DIG1, 10 VIN_IO1, 11 FLASH_SPI_CLK, 12 FLASH_SPI_MOS, 13 FLASH_SPI_MISO, 14 FLASH_SPI_CSN, 15 HOSTINTR, 16 NC_16, 17 NC_17, 18 RESERVED@1, 19 RESERVED, 20 NC_20, 21 TCXO_EN/SOP2, 22 WLAN_XTALM, 23 WLAN_XTALP, 24 VDD_PLL, 25 LDO_IN2, 26 NC_26, 27 NC_27, 28 NC_28, 29 NC_29, 30 NC_30, 31 RF_BG, 32 NRESET, 33 VDD_PA_IN, 34 SOP1, 35 SOP0, 36 LDO_IN1, 37 VIN_DCDC_ANA, 38 DCDC_ANA_SW, 39 VIN_DCDC_PA, 40 DCDC_PA_SW_P, 41 DCDC_PA_SW_N, 42 DCDC_PA_OUT, 43 DCDC_DIG_SW, 44 VIN_DCDC_DIG, 45 DCDC_ANA2_SW_P, 46 DCDC_ANA2_SW_N, 47 VDD_ANA2, 48 VDD_ANA1, 49 VDD_RAM, 50 UART1_NRTS, 51 RTC_XTAL_P, 52 RTC_XTAL_N, 53 NC_53, 54 VIN_IO2, 55 UART1_TX, 56 VDD_DIG2, 57 UART1_RX, 58 TEST_58, 59 TEST_59, 60 TEST_60, 61 UART1_NCTS, 62 TEST_62, 63 NC-63, 64 NC-64, 65 GND_TAB

## INTERFACE-CH340T(SSOP20)
designator U?, comment 310070026
MPN: CH340T
footprint SSOP20-0.65-7.6X5.2MM
pins: 1 CKO (out), 2 ACT# (out), 3 TXD (out), 4 RXD, 5 V3 (oe), 6 UD+, 7 UD-, 8 GND (oe), 9 XI, 10 XO (out), 11 CTS#, 12 DSR#, 13 RI#, 14 DCD#, 15 DTR# (out), 16 RTS# (out), 17 NC, 18 R232, 19 VCC (oe), 20 NOS# (oe)

## INTERFACE-CP2102-GMR(QFN28)
designator U?, comment 310070003
MPN: CP2102-GMR
footprint QFN28G_0.5-5X5MM
pins: 1 DCD, 2 RI, 3 GND, 4 D+, 5 D-, 6 VDD, 7 REGIN, 8 VBUS, 9 !RST, 10 NC, 11 !SUSPEND, 12 SUSPEND, 13 NC@1, 14 NC@2, 15 NC@3, 16 NC@4, 17 NC@5, 18 NC/VPP, 19 NC@6, 20 NC@7, 21 NC@8, 22 NC@9, 23 CTS, 24 RTS, 25 RXD, 26 TXD, 27 DSR, 28 DTR, 29 GND@1

## INTERFACE-ENC28J60(SSOP28)
designator U?, comment 310070055
MPN: ENC28J60
footprint SSOP28-0.65-10.2X5.2MM
pins: 1 VCAP (power), 2 VSS (oe), 3 CLKOUT, 4 !INT, 5 NC, 6 SO, 7 SI, 8 SCK, 9 !CS, 10 !RESET, 11 VSSRX, 12 TPIN-, 13 TPIN+, 14 RBIAS, 15 VDDTX (power), 16 TPOUT-, 17 TPOUT+, 18 VSSTX (oe), 19 VDDRX (power), 20 VDDPLL (power), 21 VSSPLL (oe), 22 VSSOSC (oe), 23 OSC1, 24 OSC2, 25 VDDOSC (power), 26 LEDB, 27 LEDA (power), 28 VDD (power)

## INTERFACE-ENC424J600-I/PT(TQFP44)
designator U?, comment 310070053
MPN: ENC424J600-I/PT
footprint TQFP44-0.8-9.6X9.6MM
pins: 1 VSSOSC (oe), 2 OSC2, 3 OSC1, 4 VDDOSC (power), 5 AD4, 6 AD5, 7 AD6, 8 AD7, 9 LEDB, 10 LEDA, 11 RBIAS, 12 VDDPLL (power), 13 VSSPLL (oe), 14 VSSRX (oe), 15 VDDRX (power), 16 TPIN+, 17 TPIN-, 18 VDDTX (power), 19 VSSTX (oe), 20 TPOUT+, 21 TPOUT-, 22 VSSTX@1 (oe), 23 CLKOUT, 24 SPISEL/!INT, 25 AD8, 26 AD9, 27 AD10, 28 AD11, 29 AD12, 30 AD13, 31 AD14, 32 PSPCFG0, 33 VSS (oe), 34 CS/!CS, 35 SO/WR/RN, 36 SI/RD/!RW, 37 SCK/AL, 38 AD0, 39 AD1, 40 AD2, 41 AD3, 42 VSS@1 (oe), 43 VCAP, 44 VDD (power)

## INTERFACE-ENC624J600-I/PT(TQFP64)
designator U?, comment 310070054
MPN: ENC624J600-I/PT
footprint TQFP64-0.5-12X12MM
pins: 1 VSSOSC (oe), 2 OSC2, 3 OSC1, 4 VDDOSC (power), 5 AD4, 6 AD5, 7 AD6, 8 AD7, 9 A5, 10 A6, 11 A7, 12 A8, 13 A9, 14 LEDB, 15 LEDA, 16 RBIAS, 17 PSPCFG2, 18 PSPCFG3, 19 A10, 20 A11, 21 VDD (power), 22 VDDPLL (power), 23 VSSPLL (oe), 24 VSSRX (oe), 25 VDDRX (power), 26 TPIN+, 27 TPIN-, 28 VDDTX (power), 29 VSSTX (oe), 30 TPOUT+, 31 TPOUT-, 32 VSSTX@1 (oe), 33 CLKOUT, 34 SPISEL/!INT, 35 AD8, 36 AD9, 37 AD10, 38 AD11, 39 AD12, 40 AD13, 41 AD14, 42 AD15, 43 A12, 44 A13, 45 A14/PSPCFG1, 46 VSS (oe), 47 VDD@1 (power), 48 VRH/B1SEL, 49 CS/!CS, 50 SO/WR/WRL/EN/B0SEL, 51 SI/RD/RW, 52 SCK/AL/PSPCFG4, 53 AD0, 54 AD1, 55 AD2, 56 AD3, 57 A0, 58 A1, 59 A2, 60 A3, 61 A4, 62 VSS@1 (oe), 63 VCAP, 64 VDD@2 (power)

## INTERFACE-FT230XS-R(SSOP16)
designator U?, comment 310070030
MPN: FT230XS-R
footprint SSOP16-0.635-5X4MM
pins: 1 TXD, 2 RTS, 3 VCCIO, 4 RXD, 5 GND, 6 CTS, 7 CBUS2, 8 USBDP, 9 USBDM, 10 3V3OUT, 11 RESET, 12 VCC, 13 GND@1, 14 CBUS1, 15 CBUS0, 16 CBUS3

## INTERFACE-FT232RL(SSOP28)
designator U?, comment 310070022
MPN: FT232RL
footprint SSOP28-0.65-10.2X5.2MM
pins: 1 TXD, 2 !DTR, 3 !RTS, 4 VCCIO, 5 RXD, 6 !RI, 7 GND, 9 !DSR, 10 !DCD, 11 !CTS, 12 CBUS4, 13 CBUS2, 14 CBUS3, 15 USBDP, 16 USBDM, 17 3V3OUT, 18 GND@1, 19 !RESET, 20 VCC, 21 GND@2, 22 CBUS1, 23 CBUS0, 25 GND@A, 26 TEST, 27 OSCI, 28 OSCO

## INTERFACE-HDG104-DN-2(QFN44)
designator U?, comment 317070014
MPN: HDG104-DN-2
footprint QFN44-0.6-7.7X7.1X1.4MM
pins: 1 SDIO-DAT0, 2 SDIO-DAT1, 3 GND, 4 ANT_WLAN, 5 COEX4, 6 ICE_TDI, 7 ICE_TRST, 8 ICE_TCK, 9 NC, 10 ICE_TMS, 11 VPA, 12 ICE_TDO, 13 COEX3, 14 COEX2, 15 NC@1, 16 NC@2, 17 DVDD, 18 NC@3, 19 VCC_REG_VCO, 20 VCC, 21 COEX0, 22 VCC_REG_PLL, 23 !SHUTDOWN, 24 40MHZ_IN, 25 40MHZ_OUT, 26 DCDC_ENABLE, 27 VDD_CKL_12, 28 VDD_CKL_26, 29 VBT_32K, 30 TEST_EN, 31 DCO, 32 COEX1, 33 VBAT_P, 34 !REST, 35 EXT_PWR_EN, 36 LFC(SLEEP-CLK), 37 VDD_IO, 38 NC@4, 39 SDIO-DAT3, 40 SDIO-CMD, 41 VDD_MAC_BB, 42 VDD_SDIO, 43 SDIO-DAT2, 44 SDIO-CLK, 45 GND@2, 46 GND@4, 47 GND@5, 48 GND@3

## INTERFACE-ICL3232CBNZ(SOIC16)
designator U?, comment 310070007
MPN: ICL3232CBNZ
footprint SOIC16-1.27-10.2X7.5MM
pins: 1 C1+ (out), 2 V+, 3 C1- (out), 4 C2+, 5 C2-, 6 V-, 7 T2OUT (out), 8 R2IN, 9 R2OUT (out), 10 T2IN (out), 11 T1IN, 12 R1OUT, 13 R1IN (out), 14 T1OUT, 15 GND (oe), 16 VCC (power)

## INTERFACE-MAX3241EEHJ+(TQFP32)
designator U?, comment 310070004
MPN: MAX3421EEHJ+
footprint TQFP32
pins: 1 GPIN7, 2 VL, 3 GND, 4 GPOUT0, 5 GPOUT1, 6 GPOUT2, 7 GPOUT3, 8 GPOUT4, 9 GPOUT5, 10 GPOUT6, 11 GPOUT7, 12 !RES, 13 SCLK, 14 !SS, 15 MISO, 16 MOSI, 17 GPK, 18 INT, 19 GND@1, 20 D-, 21 D+, 22 VBCOMP, 23 VCC, 24 XI, 25 XO, 26 GPIN0, 27 GPIN1, 28 GPIN2, 29 GPIN3, 30 GPIN4, 31 GPIN5, 32 GPIN6

## INTERFACE-MCP2515T-I/SO(SOIC18)
designator U?, comment 310070025
MPN: MCP2515T-I/SO
footprint SOIC18-1.27-11.5X7.5MM
pins: 1 TXCAN (out), 2 RXCAN, 3 CLKOUT/SOF (out), 4 !TX0RTS, 5 !TX1RTS, 6 !TX2RTS, 7 OSC2 (out), 8 OSC1, 9 VSS (oe), 10 !RX1BF (out), 11 !RX0BF (out), 12 !INT (out), 13 SCK, 14 SI, 15 SO (out), 16 !CS, 17 !RESET, 18 VDD (oe)

## INTERFACE-MCP2551-I/SN(SOIC8)
designator U?, comment 310070024
MPN: MCP2551-I/SN
footprint SOIC8-1.27-5X4MM
pins: 1 TXD, 2 VSS, 3 VDD, 4 RXD, 5 VREF, 6 CANL, 7 CANH, 8 RS

## INTERFACE-MCP23008-E/P(DIP18-7.62MM)
designator U?, comment 310070051
MPN: MCP23008-E/P
footprint DIP18-2.54-22.8X7.62MM
pins: 1 SCL, 2 SDA, 3 A2, 4 A1, 5 A0, 6 !RESET, 7 NC, 8 INE, 9 VSS, 10 GP0, 11 GP1, 12 GP2, 13 GP3, 14 GP4, 15 GP5, 16 GP6, 17 GP7, 18 VDD

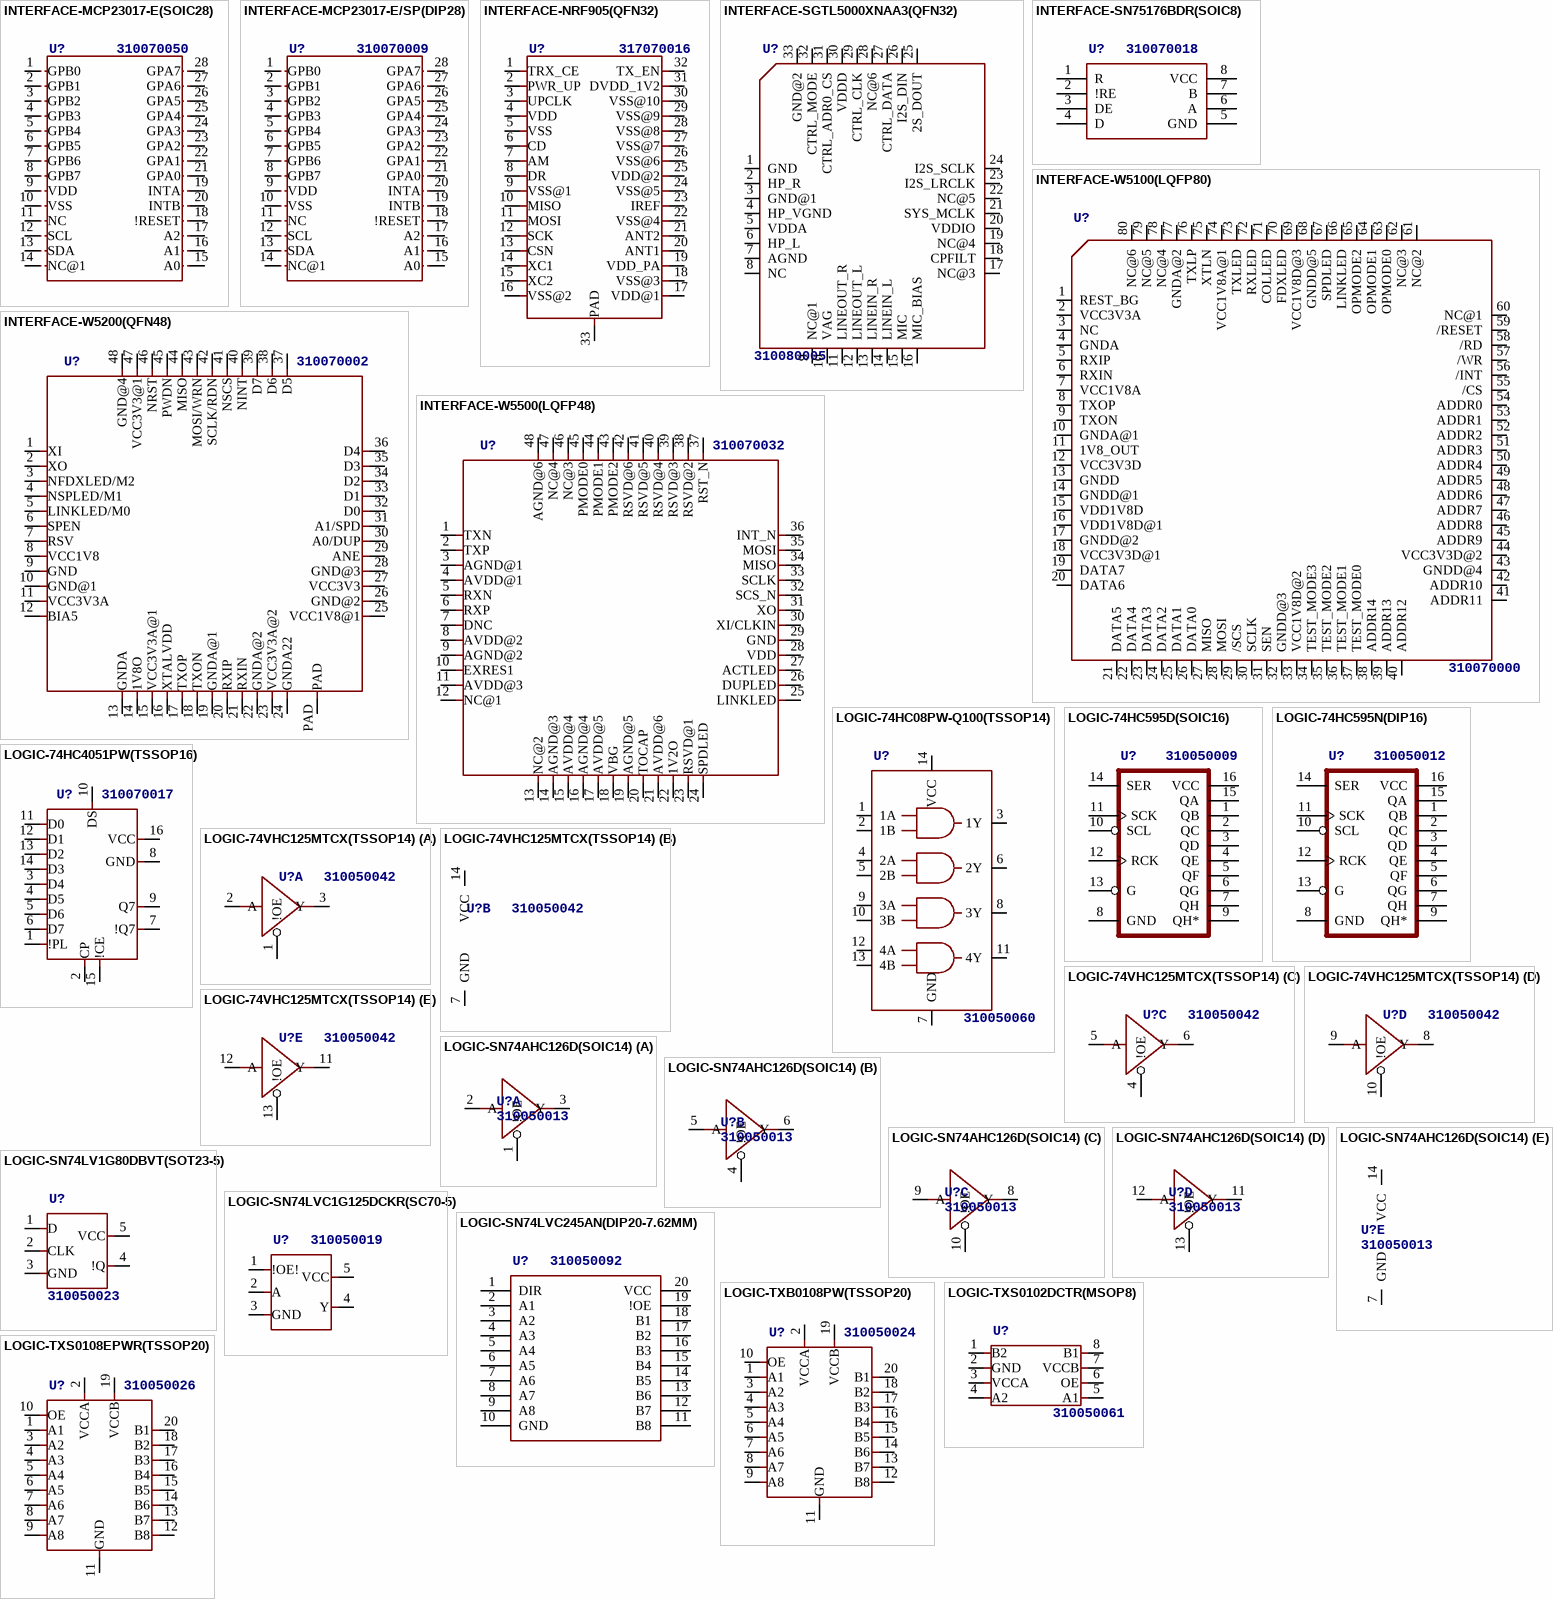
[diagram p3: symbols INTERFACE-MCP23017-E(SOIC28) to LOGIC-TXS0108EPWR(TSSOP20)]

## INTERFACE-MCP23017-E(SOIC28)
designator U?, comment 310070050
MPN: MCP23017-E/SO
footprint SOIC28-1.27-17.9X7.5MM
pins: 1 GPB0, 2 GPB1, 3 GPB2, 4 GPB3, 5 GPB4, 6 GPB5, 7 GPB6, 8 GPB7, 9 VDD, 10 VSS, 11 NC, 12 SCL, 13 SDA, 14 NC@1, 15 A0, 16 A1, 17 A2, 18 !RESET, 19 INTA, 20 INTB, 21 GPA0, 22 GPA1, 23 GPA2, 24 GPA3, 25 GPA4, 26 GPA5, 27 GPA6, 28 GPA7

## INTERFACE-MCP23017-E/SP(DIP28)
designator U?, comment 310070009
MPN: MCP23017-E/SP
footprint DIP28-2.54-35.6X13.5MM
pins: 1 GPB0, 2 GPB1, 3 GPB2, 4 GPB3, 5 GPB4, 6 GPB5, 7 GPB6, 8 GPB7, 9 VDD, 10 VSS, 11 NC, 12 SCL, 13 SDA, 14 NC@1, 15 A0, 16 A1, 17 A2, 18 !RESET, 19 INTB, 20 INTA, 21 GPA0, 22 GPA1, 23 GPA2, 24 GPA3, 25 GPA4, 26 GPA5, 27 GPA6, 28 GPA7

## INTERFACE-NRF905(QFN32)
designator U?, comment 317070016
MPN: NRF905
footprint QFN32G-0.5-5X5MM
pins: 1 TRX_CE, 2 PWR_UP, 3 UPCLK, 4 VDD, 5 VSS, 6 CD, 7 AM, 8 DR, 9 VSS@1, 10 MISO, 11 MOSI, 12 SCK, 13 CSN, 14 XC1, 15 XC2, 16 VSS@2, 17 VDD@1, 18 VSS@3, 19 VDD_PA, 20 ANT1, 21 ANT2, 22 VSS@4, 23 IREF, 24 VSS@5, 25 VDD@2, 26 VSS@6, 27 VSS@7, 28 VSS@8, 29 VSS@9, 30 VSS@10, 31 DVDD_1V2, 32 TX_EN, 33 PAD

## INTERFACE-SGTL5000XNAA3(QFN32)
designator U?, comment 310080005
MPN: SGTL5000XNAA3
footprint QFN32G-0.5-5X5MM
pins: 1 GND, 2 HP_R, 3 GND@1, 4 HP_VGND, 5 VDDA, 6 HP_L, 7 AGND, 8 NC, 9 NC@1, 10 VAG, 11 LINEOUT_R, 12 LINEOUT_L, 13 LINEIN_R, 14 LINEIN_L, 15 MIC, 16 MIC_BIAS, 17 NC@3, 18 CPFILT, 19 NC@4, 20 VDDIO, 21 SYS_MCLK, 22 NC@5, 23 I2S_LRCLK, 24 I2S_SCLK, 25 2S_DOUT, 26 I2S_DIN, 27 CTRL_DATA, 28 NC@6, 29 CTRL_CLK, 30 VDDD, 31 CTRL_ADR0_CS, 32 CTRL_MODE, 33 GND@2

## INTERFACE-SN75176BDR(SOIC8)
designator U?, comment 310070018
MPN: SN75176BDR
footprint SOIC8-1.27-5X4MM
pins: 1 R, 2 !RE, 3 DE, 4 D, 5 GND (oe), 6 A, 7 B, 8 VCC (power)

## INTERFACE-W5100(LQFP80)
designator U?, comment 310070000
MPN: W5100
footprint LQFP80-0.4-10X10MM
pins: 1 REST_BG, 2 VCC3V3A (power), 3 NC, 4 GNDA (oe), 5 RXIP, 6 RXIN, 7 VCC1V8A (power), 8 TXOP, 9 TXON, 10 GNDA@1 (oe), 11 1V8_OUT (power), 12 VCC3V3D (power), 13 GNDD (oe), 14 GNDD@1 (oe), 15 VDD1V8D (power), 16 VDD1V8D@1 (power), 17 GNDD@2 (oe), 18 VCC3V3D@1 (power), 19 DATA7, 20 DATA6, 21 DATA5, 22 DATA4, 23 DATA3, 24 DATA2, 25 DATA1, 26 DATA0, 27 MISO, 28 MOSI, 29 /SCS, 30 SCLK, 31 SEN, 32 GNDD@3 (oe), 33 VCC1V8D@2 (power), 34 TEST_MODE3, 35 TEST_MODE2, 36 TEST_MODE1, 37 TEST_MODE0, 38 ADDR14, 39 ADDR13, 40 ADDR12, 41 ADDR11, 42 ADDR10, 43 GNDD@4 (oe), 44 VCC3V3D@2 (power), 45 ADDR9, 46 ADDR8, 47 ADDR7, 48 ADDR6, 49 ADDR5, 50 ADDR4, 51 ADDR3, 52 ADDR2, 53 ADDR1, 54 ADDR0, 55 /CS, 56 /INT, 57 /WR, 58 /RD, 59 /RESET, 60 NC@1, 61 NC@2, 62 NC@3, 63 OPMODE0, 64 OPMODE1, 65 OPMODE2, 66 LINKLED, 67 SPDLED, 68 GNDD@5 (oe), 69 VCC1V8D@3 (power), 70 FDXLED, 71 COLLED, 72 RXLED, 73 TXLED, 74 VCC1V8A@1 (power), 75 XTLN, 76 TXLP, 77 GNDA@2 (oe), 78 NC@4, 79 NC@5, 80 NC@6

## INTERFACE-W5200(QFN48)
designator U?, comment 310070002
MPN: W5200
footprint QFN48G-0.5-7X7MM
pins: 1 XI, 2 XO, 3 NFDXLED/M2, 4 NSPLED/M1, 5 LINKLED/M0, 6 SPEN, 7 RSV, 8 VCC1V8 (power), 9 GND (oe), 10 GND@1 (oe), 11 VCC3V3A (power), 12 BIA5, 13 GNDA (oe), 14 1V8O (power), 15 VCC3V3A@1 (power), 16 XTALVDD, 17 TXOP, 18 TXON, 19 GNDA@1, 20 RXIP (power), 21 RXIN, 22 GNDA@2 (oe), 23 VCC3V3A@2 (power), 24 GNDA22 (oe), 25 VCC1V8@1 (power), 26 GND@2 (oe), 27 VCC3V3 (power), 28 GND@3 (oe), 29 ANE, 30 A0/DUP, 31 A1/SPD, 32 D0, 33 D1, 34 D2, 35 D3, 36 D4, 37 D5, 38 D6, 39 D7, 40 NINT, 41 NSCS, 42 SCLK/RDN, 43 MOSI/WRN, 44 MISO, 45 PWDN, 46 NRST, 47 VCC3V3@1 (power), 48 GND@4 (oe), PAD (oe)

## INTERFACE-W5500(LQFP48)
designator U?, comment 310070032
MPN: W5500
footprint LQFP48-0.5-7X7MM
pins: 1 TXN, 2 TXP, 3 AGND@1, 4 AVDD@1, 5 RXN, 6 RXP, 7 DNC, 8 AVDD@2, 9 AGND@2, 10 EXRES1, 11 AVDD@3, 12 NC@1, 13 NC@2, 14 AGND@3, 15 AVDD@4, 16 AGND@4, 17 AVDD@5, 18 VBG, 19 AGND@5, 20 TOCAP, 21 AVDD@6, 22 1V2O, 23 RSVD@1, 24 SPDLED, 25 LINKLED, 26 DUPLED, 27 ACTLED, 28 VDD, 29 GND, 30 XI/CLKIN, 31 XO, 32 SCS_N, 33 SCLK, 34 MISO, 35 MOSI, 36 INT_N, 37 RST_N, 38 RSVD@2, 39 RSVD@3, 40 RSVD@4, 41 RSVD@5, 42 RSVD@6, 43 PMODE2, 44 PMODE1, 45 PMODE0, 46 NC@3, 47 NC@4, 48 AGND@6

## LOGIC-74HC08PW-Q100(TSSOP14)
designator U?, comment 310050060
MPN: 74HC08PW-Q100
footprint TSSOP14-0.65-5X4.4MM
pins: 1 1A, 2 1B, 3 1Y (oe), 4 2A, 5 2B, 6 2Y (oe), 7 GND (oe), 8 3Y, 9 3A, 10 3B, 11 4Y, 12 4A, 13 4B, 14 VCC (power)

## LOGIC-74HC595D(SOIC16)
designator U?, comment 310050009
MPN: 74HC595D
footprint SOIC16-1.27-10X3.9MM
pins: 1 QB (hiz), 2 QC (hiz), 3 QD (hiz), 4 QE (hiz), 5 QF (hiz), 6 QG (hiz), 7 QH (hiz), 8 GND (power), 9 QH* (hiz), 10 SCL, 11 SCK, 12 RCK, 13 G, 14 SER, 15 QA (hiz), 16 VCC (power)

## LOGIC-74HC595N(DIP16)
designator U?, comment 310050012
MPN: 74HC595N
footprint DIP16-2.54-20.32X5.84MM
pins: 1 QB (hiz), 2 QC (hiz), 3 QD (hiz), 4 QE (hiz), 5 QF (hiz), 6 QG (hiz), 7 QH (hiz), 8 GND (power), 9 QH* (hiz), 10 SCL, 11 SCK, 12 RCK, 13 G, 14 SER, 15 QA (hiz), 16 VCC (power)

## LOGIC-74HC4051PW(TSSOP16)
designator U?, comment 310070017
MPN: 74HC4051PW
footprint TSSOP16-0.65-5X4.4MM
pins: 1 !PL, 2 CP, 3 D4, 4 D5, 5 D6, 6 D7, 7 !Q7, 8 GND (oe), 9 Q7, 10 DS, 11 D0, 12 D1, 13 D2, 14 D3, 15 !CE, 16 VCC (oe)

## LOGIC-74VHC125MTCX(TSSOP14)
designator U?, comment 310050042
MPN: 74VHC125MTCX
footprint TSSOP14-0.65-5X4.4MM
part A pins: 1 !OE, 2 A, 3 Y
part B pins: 7 GND (oe), 14 VCC (oe)
part C pins: 4 !OE, 5 A, 6 Y
part D pins: 8 Y, 9 A, 10 !OE
part E pins: 11 Y, 12 A, 13 !OE

## LOGIC-SN74AHC126D(SOIC14)
designator U?, comment 310050013
MPN: SN74AHC126D
footprint SOIC14-1.27-10.2X5.3MM
part A pins: 1 !OE, 2 A, 3 Y
part B pins: 4 !OE, 5 A, 6 Y
part C pins: 8 Y, 9 A, 10 !OE
part D pins: 11 Y, 12 A, 13 !OE
part E pins: 7 GND (oe), 14 VCC (oe)

## LOGIC-SN74LV1G80DBVT(SOT23-5)
designator U?, comment 310050023
MPN: SN74LVC1G80DBVT
footprint SOT-23-5
pins: 1 D, 2 CLK, 3 GND (oe), 4 !Q, 5 VCC (power)

## LOGIC-SN74LVC1G125DCKR(SC70-5)
designator U?, comment 310050019
MPN: SN74LVC1G125DCKR
footprint SC-70-5
pins: 1 !OE!, 2 A, 3 GND, 4 Y, 5 VCC

## LOGIC-SN74LVC245AN(DIP20-7.62MM)
designator U?, comment 310050092
MPN: SN74LVC245AN
footprint DIP20-2.54-26.2X7.62MM
pins: 1 DIR, 2 A1, 3 A2, 4 A3, 5 A4, 6 A5, 7 A6, 8 A7, 9 A8, 10 GND, 11 B8, 12 B7, 13 B6, 14 B5, 15 B4, 16 B3, 17 B2, 18 B1, 19 !OE, 20 VCC

## LOGIC-TXB0108PW(TSSOP20)
designator U?, comment 310050024
MPN: TXB0108PW
footprint TSSOP20-0.65-6.5X4.4MM
pins: 1 A1, 2 VCCA, 3 A2, 4 A3, 5 A4, 6 A5, 7 A6, 8 A7, 9 A8, 10 OE, 11 GND, 12 B8, 13 B7, 14 B6, 15 B5, 16 B4, 17 B3, 18 B2, 19 VCCB, 20 B1

## LOGIC-TXS0102DCTR(MSOP8)
designator U?, comment 310050061
MPN: TXS0102DCTR
footprint MSOP8-0.65-3X3MM
pins: 1 B2, 2 GND (oe), 3 VCCA (power), 4 A2, 5 A1, 6 OE, 7 VCCB (power), 8 B1

## LOGIC-TXS0108EPWR(TSSOP20)
designator U?, comment 310050026
MPN: TXS0108EPWR
footprint TSSOP20-0.65-6.5X4.4MM
pins: 1 A1, 2 VCCA, 3 A2, 4 A3, 5 A4, 6 A5, 7 A6, 8 A7, 9 A8, 10 OE, 11 GND, 12 B8, 13 B7, 14 B6, 15 B5, 16 B4, 17 B3, 18 B2, 19 VCCB, 20 B1

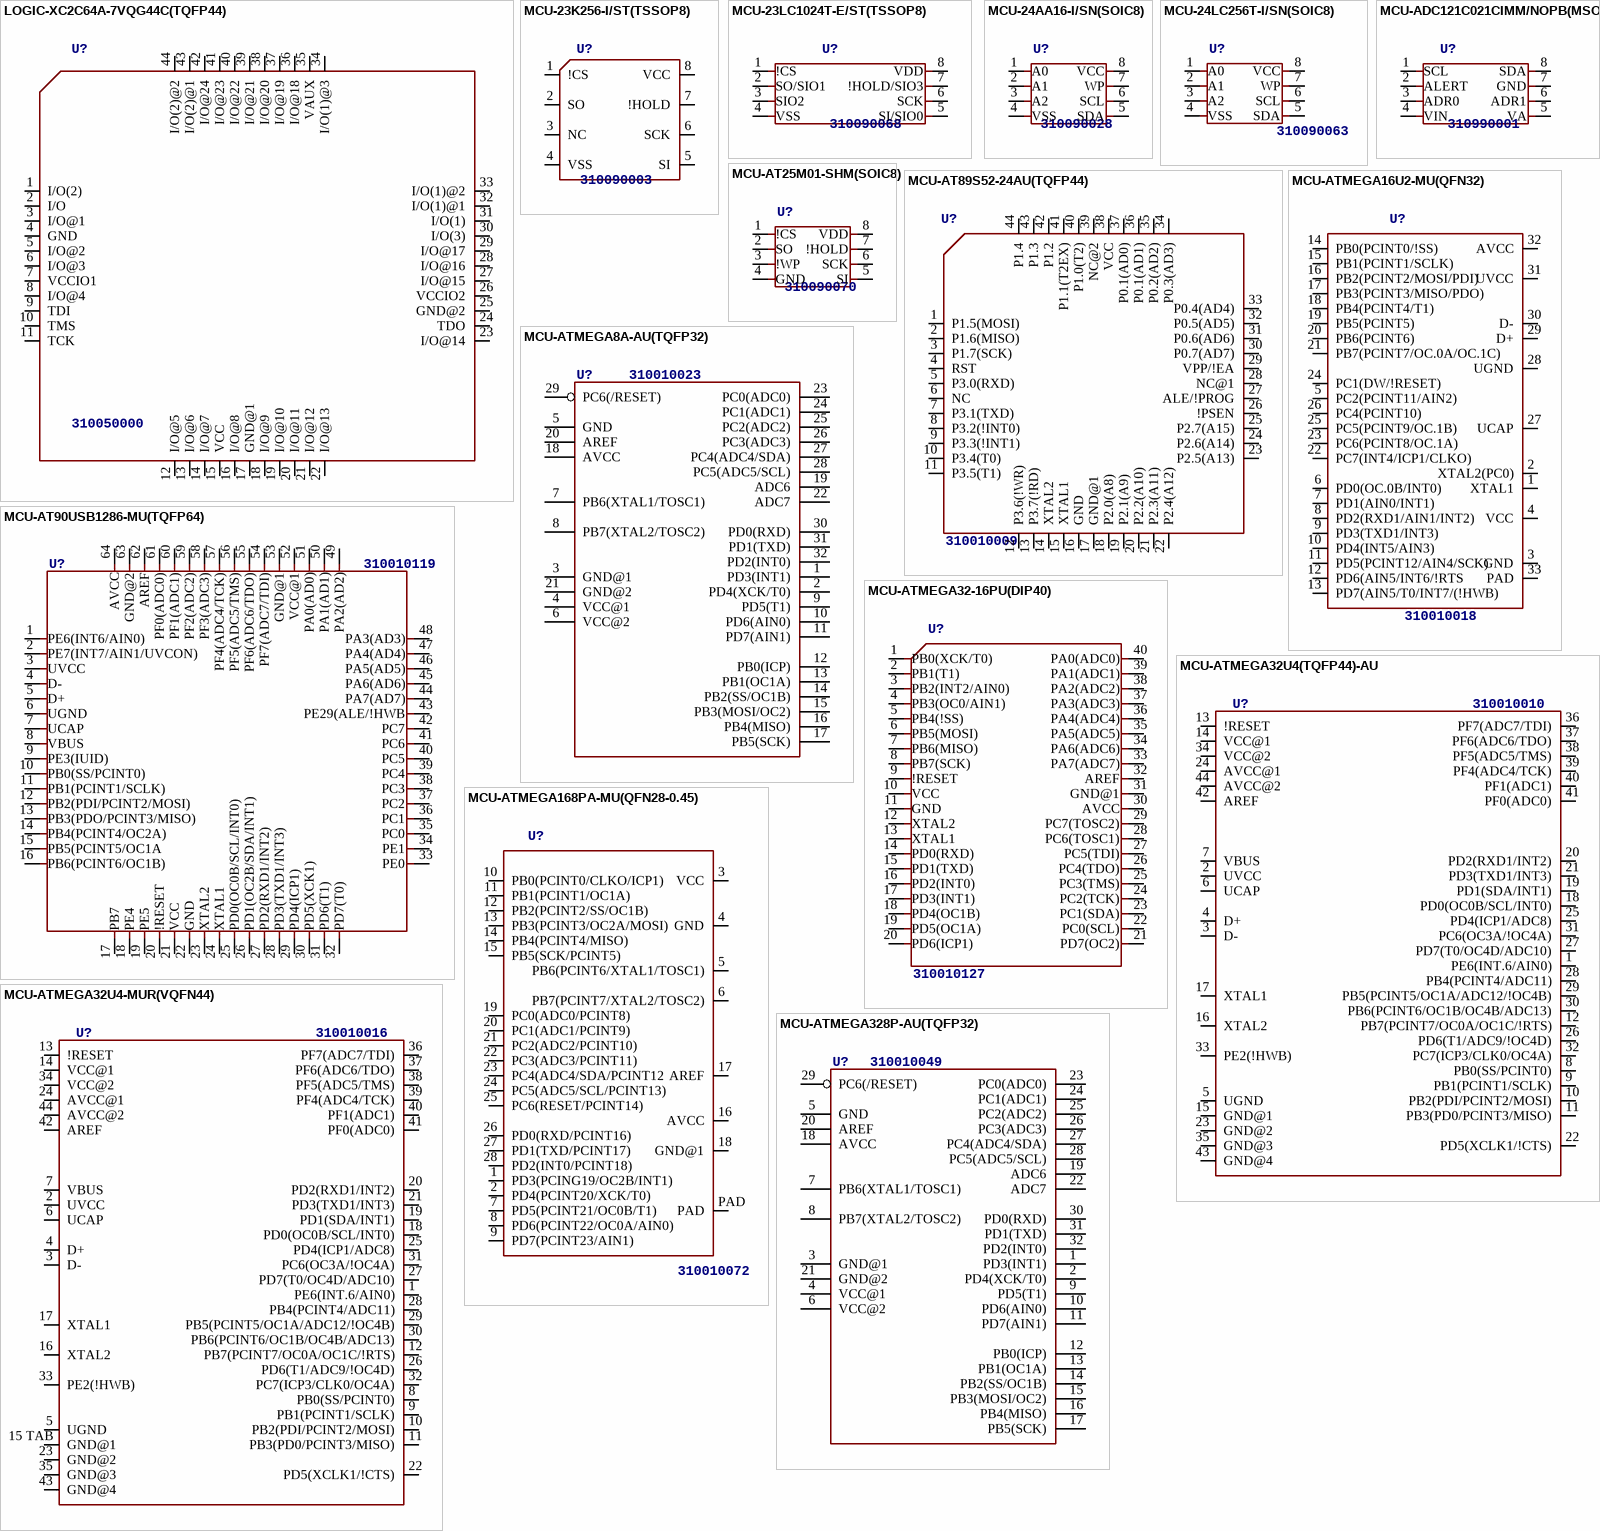
[diagram p4: symbols LOGIC-XC2C64A-7VQG44C(TQFP44) to MCU-ATMEGA328P-AU(TQFP32)]

## LOGIC-XC2C64A-7VQG44C(TQFP44)
designator U?, comment 310050000
MPN: XC2C64A-7VQG44C
footprint TQFP44-0.8-9.6X9.6MM
pins: 1 I/O(2), 2 I/O, 3 I/O@1, 4 GND, 5 I/O@2, 6 I/O@3, 7 VCCIO1, 8 I/O@4, 9 TDI, 10 TMS, 11 TCK, 12 I/O@5, 13 I/O@6, 14 I/O@7, 15 VCC, 16 I/O@8, 17 GND@1, 18 I/O@9, 19 I/O@10, 20 I/O@11, 21 I/O@12, 22 I/O@13, 23 I/O@14, 24 TDO, 25 GND@2, 26 VCCIO2, 27 I/O@15, 28 I/O@16, 29 I/O@17, 30 I/O(3), 31 I/O(1), 32 I/O(1)@1, 33 I/O(1)@2, 34 I/O(1)@3, 35 VAUX, 36 I/O@18, 37 I/O@19, 38 I/O@20, 39 I/O@21, 40 I/O@22, 41 I/O@23, 42 I/O@24, 43 I/O(2)@1, 44 I/O(2)@2

## MCU-23K256-I/ST(TSSOP8)
designator U?, comment 310090003
MPN: 23K256-I/ST
footprint TSSOP8-0.65-3X4.4MM
pins: 1 !CS, 2 SO, 3 NC, 4 VSS (oe), 5 SI, 6 SCK, 7 !HOLD, 8 VCC (power)

## MCU-23LC1024T-E/ST(TSSOP8)
designator U?, comment 310090068
MPN: 23LC1024T-E/ST
footprint TSSOP8-0.65-3X4.4MM
pins: 1 !CS, 2 SO/SIO1, 3 SIO2, 4 VSS, 5 SI/SIO0, 6 SCK, 7 !HOLD/SIO3, 8 VDD

## MCU-24AA16-I/SN(SOIC8)
designator U?, comment 310090028
MPN: 24AA16-I/SN
footprint SOIC8-1.27-5X4MM
pins: 1 A0, 2 A1, 3 A2, 4 VSS (oe), 5 SDA, 6 SCL, 7 WP, 8 VCC (power)

## MCU-24LC256T-I/SN(SOIC8)
designator U?, comment 310090063
MPN: 24LC256T-I/SN
footprint SOIC8-1.27-5X4MM
pins: 1 A0, 2 A1, 3 A2, 4 VSS (oe), 5 SDA, 6 SCL, 7 WP, 8 VCC (power)

## MCU-ADC121C021CIMM/NOPB(MSOP8)
designator U?, comment 310990001
MPN: ADC121C021CIMM/NOPB
footprint MSOP8-0.65-3X3MM
pins: 1 SCL, 2 ALERT, 3 ADR0, 4 VIN (power), 5 VA, 6 ADR1, 7 GND (oe), 8 SDA

## MCU-AT25M01-SHM(SOIC8)
designator U?, comment 310090070
MPN: AT25M01-SHM
footprint SOIC8-1.27-5X4MM
pins: 1 !CS, 2 SO, 3 !WP, 4 GND, 5 SI, 6 SCK, 7 !HOLD, 8 VDD

## MCU-AT89S52-24AU(TQFP44)
designator U?, comment 310010009
MPN: AT89S52-24AU
footprint TQFP44-0.8-9.6X9.6MM
pins: 1 P1.5(MOSI), 2 P1.6(MISO), 3 P1.7(SCK), 4 RST, 5 P3.0(RXD), 6 NC, 7 P3.1(TXD), 8 P3.2(!INT0), 9 P3.3(!INT1), 10 P3.4(T0), 11 P3.5(T1), 12 P3.6(!WR), 13 P3.7(!RD), 14 XTAL2, 15 XTAL1, 16 GND, 17 GND@1, 18 P2.0(A8), 19 P2.1(A9), 20 P2.2(A10), 21 P2.3(A11), 22 P2.4(A12), 23 P2.5(A13), 24 P2.6(A14), 25 P2.7(A15), 26 !PSEN, 27 ALE/!PROG, 28 NC@1, 29 VPP/!EA, 30 P0.7(AD7), 31 P0.6(AD6), 32 P0.5(AD5), 33 P0.4(AD4), 34 P0.3(AD3), 35 P0.2(AD2), 36 P0.1(AD1), 37 P0.1(AD0), 38 VCC, 39 NC@2, 40 P1.0(T2), 41 P1.1(T2EX), 42 P1.2, 43 P1.3, 44 P1.4

## MCU-AT90USB1286-MU(TQFP64)
designator U?, comment 310010119
MPN: AT90USB1286-MU
footprint TQFP64-0.8-14X14MM
pins: 1 PE6(INT6/AIN0), 2 PE7(INT7/AIN1/UVCON), 3 UVCC, 4 D-, 5 D+, 6 UGND, 7 UCAP, 8 VBUS, 9 PE3(IUID), 10 PB0(SS/PCINT0), 11 PB1(PCINT1/SCLK), 12 PB2(PDI/PCINT2/MOSI), 13 PB3(PDO/PCINT3/MISO), 14 PB4(PCINT4/OC2A), 15 PB5(PCINT5/OC1A, 16 PB6(PCINT6/OC1B), 17 PB7, 18 PE4, 19 PE5, 20 !RESET, 21 VCC, 22 GND, 23 XTAL2, 24 XTAL1, 25 PD0(OC0B/SCL/INT0), 26 PD1(OC2B/SDA/INT1), 27 PD2(RXD1/INT2), 28 PD3(TXD1/INT3), 29 PD4(ICP1), 30 PD5(XCK1), 31 PD6(T1), 32 PD7(T0), 33 PE0, 34 PE1, 35 PC0, 36 PC1, 37 PC2, 38 PC3, 39 PC4, 40 PC5, 41 PC6, 42 PC7, 43 PE29(ALE/!HWB, 44 PA7(AD7), 45 PA6(AD6), 46 PA5(AD5), 47 PA4(AD4), 48 PA3(AD3), 49 PA2(AD2), 50 PA1(AD1), 51 PA0(AD0), 52 VCC@1, 53 GND@1, 54 PF7(ADC7/TDI), 55 PF6(ADC6/TDO), 56 PF5(ADC5/TMS), 57 PF4(ADC4/TCK), 58 PF3(ADC3), 59 PF2(ADC2), 60 PF1(ADC1), 61 PF0(ADC0), 62 AREF, 63 GND@2, 64 AVCC

## MCU-ATMEGA8A-AU(TQFP32)
designator U?, comment 310010023
MPN: ATMEGA8A-AU
footprint TQFP32-0.8-7X7MM
pins: 1 PD3(INT1), 2 PD4(XCK/T0), 3 GND@1, 4 VCC@1, 5 GND, 6 VCC@2, 7 PB6(XTAL1/TOSC1), 8 PB7(XTAL2/TOSC2), 9 PD5(T1), 10 PD6(AIN0), 11 PD7(AIN1), 12 PB0(ICP), 13 PB1(OC1A), 14 PB2(SS/OC1B), 15 PB3(MOSI/OC2), 16 PB4(MISO), 17 PB5(SCK), 18 AVCC, 19 ADC6, 20 AREF, 21 GND@2, 22 ADC7, 23 PC0(ADC0), 24 PC1(ADC1), 25 PC2(ADC2), 26 PC3(ADC3), 27 PC4(ADC4/SDA), 28 PC5(ADC5/SCL), 29 PC6(/RESET), 30 PD0(RXD), 31 PD1(TXD), 32 PD2(INT0)

## MCU-ATMEGA16U2-MU(QFN32)
designator U?, comment 310010018
MPN: ATMEGA16U2-MU
footprint QFN32G-0.5-5X5MM
pins: 1 XTAL1, 2 XTAL2(PC0), 3 GND, 4 VCC, 5 PC2(PCINT11/AIN2), 6 PD0(OC.0B/INT0), 7 PD1(AIN0/INT1), 8 PD2(RXD1/AIN1/INT2), 9 PD3(TXD1/INT3), 10 PD4(INT5/AIN3), 11 PD5(PCINT12/AIN4/SCK), 12 PD6(AIN5/INT6/!RTS, 13 PD7(AIN5/T0/INT7/(!HWB), 14 PB0(PCINT0/!SS), 15 PB1(PCINT1/SCLK), 16 PB2(PCINT2/MOSI/PDI), 17 PB3(PCINT3/MISO/PDO), 18 PB4(PCINT4/T1), 19 PB5(PCINT5), 20 PB6(PCINT6), 21 PB7(PCINT7/OC.0A/OC.1C), 22 PC7(INT4/ICP1/CLKO), 23 PC6(PCINT8/OC.1A), 24 PC1(DW/!RESET), 25 PC5(PCINT9/OC.1B), 26 PC4(PCINT10), 27 UCAP, 28 UGND, 29 D+, 30 D-, 31 UVCC, 32 AVCC, 33 PAD

## MCU-ATMEGA32-16PU(DIP40)
designator U?, comment 310010127
MPN: ATMEGA32-16PU
footprint DIP40-2.54-52.3X15.24MM
pins: 1 PB0(XCK/T0), 2 PB1(T1), 3 PB2(INT2/AIN0), 4 PB3(OC0/AIN1), 5 PB4(!SS), 6 PB5(MOSI), 7 PB6(MISO), 8 PB7(SCK), 9 !RESET, 10 VCC, 11 GND, 12 XTAL2, 13 XTAL1, 14 PD0(RXD), 15 PD1(TXD), 16 PD2(INT0), 17 PD3(INT1), 18 PD4(OC1B), 19 PD5(OC1A), 20 PD6(ICP1), 21 PD7(OC2), 22 PC0(SCL), 23 PC1(SDA), 24 PC2(TCK), 25 PC3(TMS), 26 PC4(TDO), 27 PC5(TDI), 28 PC6(TOSC1), 29 PC7(TOSC2), 30 AVCC, 31 GND@1, 32 AREF, 33 PA7(ADC7), 34 PA6(ADC6), 35 PA5(ADC5), 36 PA4(ADC4), 37 PA3(ADC3), 38 PA2(ADC2), 39 PA1(ADC1), 40 PA0(ADC0)

## MCU-ATMEGA32U4(TQFP44)-AU
designator U?, comment 310010010
MPN: ATMEGA32U4
footprint TQFP44-0.8-9.6X9.6MM
pins: 1 PE6(INT.6/AIN0), 2 UVCC, 3 D-, 4 D+, 5 UGND, 6 UCAP, 7 VBUS, 8 PB0(SS/PCINT0), 9 PB1(PCINT1/SCLK), 10 PB2(PDI/PCINT2/MOSI), 11 PB3(PD0/PCINT3/MISO), 12 PB7(PCINT7/OC0A/OC1C/!RTS), 13 !RESET, 14 VCC@1, 15 GND@1, 16 XTAL2, 17 XTAL1, 18 PD0(OC0B/SCL/INT0), 19 PD1(SDA/INT1), 20 PD2(RXD1/INT2), 21 PD3(TXD1/INT3), 22 PD5(XCLK1/!CTS), 23 GND@2, 24 AVCC@1, 25 PD4(ICP1/ADC8), 26 PD6(T1/ADC9/!OC4D), 27 PD7(T0/OC4D/ADC10), 28 PB4(PCINT4/ADC11), 29 PB5(PCINT5/OC1A/ADC12/!OC4B), 30 PB6(PCINT6/OC1B/OC4B/ADC13), 31 PC6(OC3A/!OC4A), 32 PC7(ICP3/CLK0/OC4A), 33 PE2(!HWB), 34 VCC@2, 35 GND@3, 36 PF7(ADC7/TDI), 37 PF6(ADC6/TDO), 38 PF5(ADC5/TMS), 39 PF4(ADC4/TCK), 40 PF1(ADC1), 41 PF0(ADC0), 42 AREF, 43 GND@4, 44 AVCC@2

## MCU-ATMEGA32U4-MUR(VQFN44)
designator U?, comment 310010016
MPN: ATMEGA32U4-MUR
footprint QFN44G-0.5-7X7MM
pins: 1 PE6(INT.6/AIN0), 2 UVCC, 3 D-, 4 D+, 5 UGND, 6 UCAP, 7 VBUS, 8 PB0(SS/PCINT0), 9 PB1(PCINT1/SCLK), 10 PB2(PDI/PCINT2/MOSI), 11 PB3(PD0/PCINT3/MISO), 12 PB7(PCINT7/OC0A/OC1C/!RTS), 13 !RESET, 14 VCC@1, 15 TAB GND@1, 16 XTAL2, 17 XTAL1, 18 PD0(OC0B/SCL/INT0), 19 PD1(SDA/INT1), 20 PD2(RXD1/INT2), 21 PD3(TXD1/INT3), 22 PD5(XCLK1/!CTS), 23 GND@2, 24 AVCC@1, 25 PD4(ICP1/ADC8), 26 PD6(T1/ADC9/!OC4D), 27 PD7(T0/OC4D/ADC10), 28 PB4(PCINT4/ADC11), 29 PB5(PCINT5/OC1A/ADC12/!OC4B), 30 PB6(PCINT6/OC1B/OC4B/ADC13), 31 PC6(OC3A/!OC4A), 32 PC7(ICP3/CLK0/OC4A), 33 PE2(!HWB), 34 VCC@2, 35 GND@3, 36 PF7(ADC7/TDI), 37 PF6(ADC6/TDO), 38 PF5(ADC5/TMS), 39 PF4(ADC4/TCK), 40 PF1(ADC1), 41 PF0(ADC0), 42 AREF, 43 GND@4, 44 AVCC@2

## MCU-ATMEGA168PA-MU(QFN28-0.45)
designator U?, comment 310010072
MPN: ATMEGA168PA-MU
footprint QFN28G-0.45-4X4MM
pins: 1 PD3(PCING19/OC2B/INT1), 2 PD4(PCINT20/XCK/T0), 3 VCC, 4 GND, 5 PB6(PCINT6/XTAL1/TOSC1), 6 PB7(PCINT7/XTAL2/TOSC2), 7 PD5(PCINT21/OC0B/T1), 8 PD6(PCINT22/OC0A/AIN0), 9 PD7(PCINT23/AIN1), 10 PB0(PCINT0/CLKO/ICP1), 11 PB1(PCINT1/OC1A), 12 PB2(PCINT2/SS/OC1B), 13 PB3(PCINT3/OC2A/MOSI), 14 PB4(PCINT4/MISO), 15 PB5(SCK/PCINT5), 16 AVCC, 17 AREF, 18 GND@1, 19 PC0(ADC0/PCINT8), 20 PC1(ADC1/PCINT9), 21 PC2(ADC2/PCINT10), 22 PC3(ADC3/PCINT11), 23 PC4(ADC4/SDA/PCINT12, 24 PC5(ADC5/SCL/PCINT13), 25 PC6(RESET/PCINT14), 26 PD0(RXD/PCINT16), 27 PD1(TXD/PCINT17), 28 PD2(INT0/PCINT18), PAD

## MCU-ATMEGA328P-AU(TQFP32)
designator U?, comment 310010049
MPN: ATMEGA328P-AU
footprint TQFP32-0.8-7X7MM
pins: 1 PD3(INT1), 2 PD4(XCK/T0), 3 GND@1, 4 VCC@1, 5 GND, 6 VCC@2, 7 PB6(XTAL1/TOSC1), 8 PB7(XTAL2/TOSC2), 9 PD5(T1), 10 PD6(AIN0), 11 PD7(AIN1), 12 PB0(ICP), 13 PB1(OC1A), 14 PB2(SS/OC1B), 15 PB3(MOSI/OC2), 16 PB4(MISO), 17 PB5(SCK), 18 AVCC, 19 ADC6, 20 AREF, 21 GND@2, 22 ADC7, 23 PC0(ADC0), 24 PC1(ADC1), 25 PC2(ADC2), 26 PC3(ADC3), 27 PC4(ADC4/SDA), 28 PC5(ADC5/SCL), 29 PC6(/RESET), 30 PD0(RXD), 31 PD1(TXD), 32 PD2(INT0)

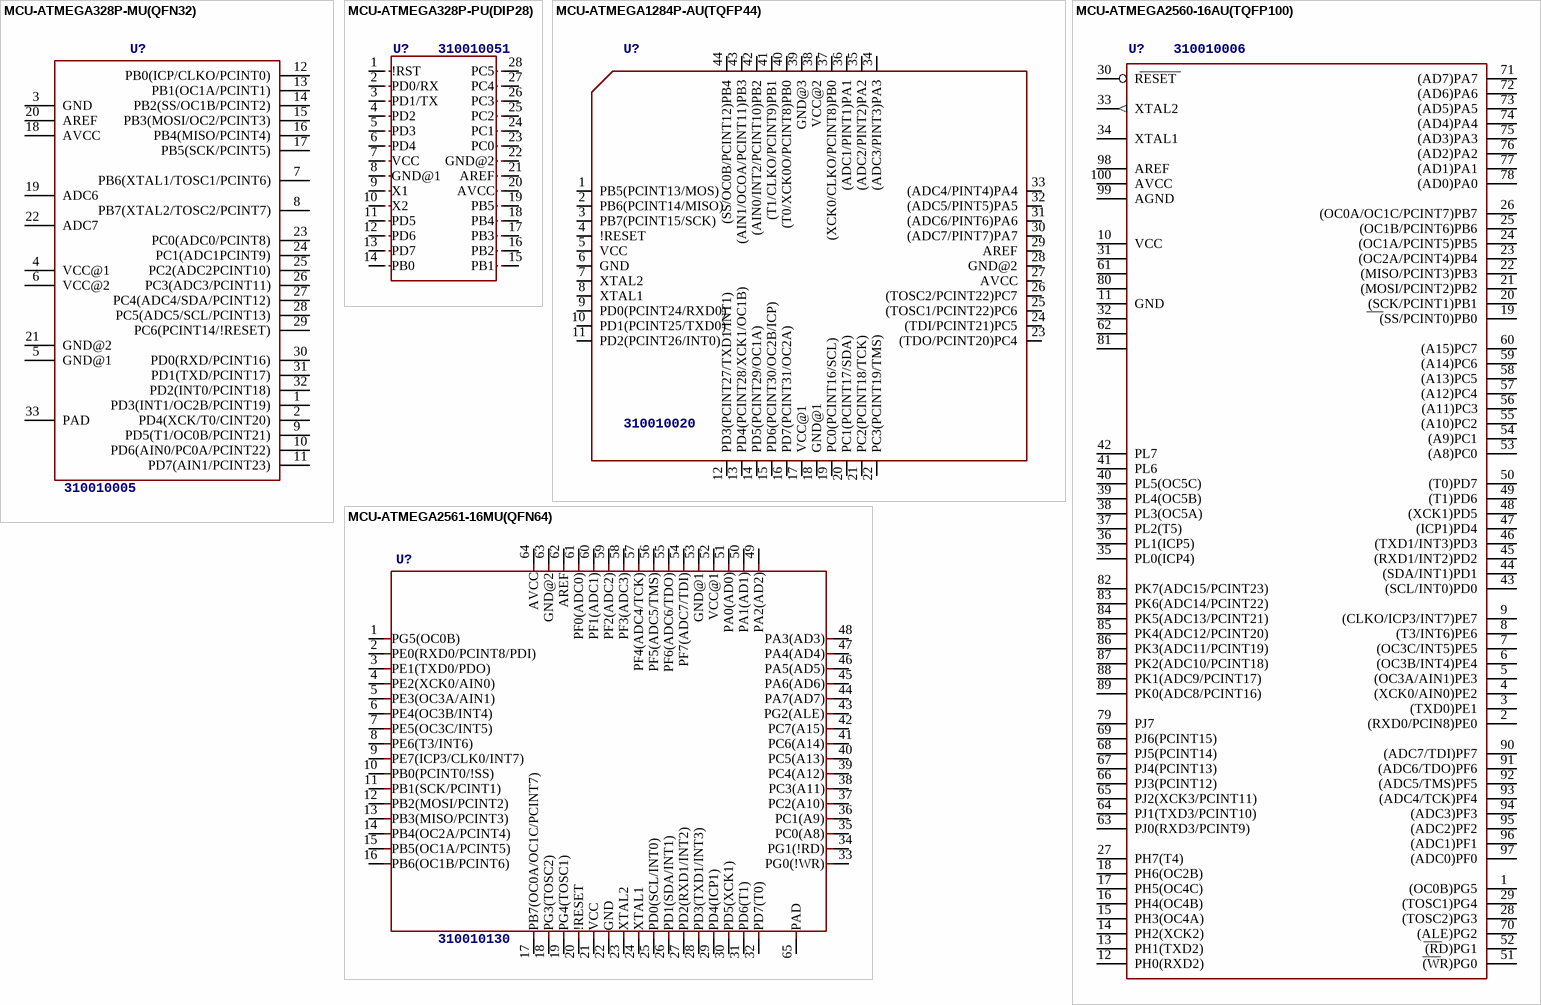
[diagram p5: symbols MCU-ATMEGA328P-MU(QFN32) to MCU-ATMEGA2561-16MU(QFN64)]

## MCU-ATMEGA328P-MU(QFN32)
designator U?, comment 310010005
MPN: ATMEGA328P-MU
footprint QFN32G-0.5-5X5MM
pins: 1 PD3(INT1/OC2B/PCINT19), 2 PD4(XCK/T0/CINT20), 3 GND, 4 VCC@1, 5 GND@1, 6 VCC@2, 7 PB6(XTAL1/TOSC1/PCINT6), 8 PB7(XTAL2/TOSC2/PCINT7), 9 PD5(T1/OC0B/PCINT21), 10 PD6(AIN0/PC0A/PCINT22), 11 PD7(AIN1/PCINT23), 12 PB0(ICP/CLKO/PCINT0), 13 PB1(OC1A/PCINT1), 14 PB2(SS/OC1B/PCINT2), 15 PB3(MOSI/OC2/PCINT3), 16 PB4(MISO/PCINT4), 17 PB5(SCK/PCINT5), 18 AVCC, 19 ADC6, 20 AREF, 21 GND@2, 22 ADC7, 23 PC0(ADC0/PCINT8), 24 PC1(ADC1PCINT9), 25 PC2(ADC2PCINT10), 26 PC3(ADC3/PCINT11), 27 PC4(ADC4/SDA/PCINT12), 28 PC5(ADC5/SCL/PCINT13), 29 PC6(PCINT14/!RESET), 30 PD0(RXD/PCINT16), 31 PD1(TXD/PCINT17), 32 PD2(INT0/PCINT18), 33 PAD

## MCU-ATMEGA328P-PU(DIP28)
designator U?, comment 310010051
MPN: ATMEGA328P-PU; VALUE-DIP28: ATMEGA328P-PU
footprint DIP28-2.54-35.6X13.5MM
pins: 1 !RST, 2 PD0/RX, 3 PD1/TX, 4 PD2, 5 PD3, 6 PD4, 7 VCC, 8 GND@1, 9 X1, 10 X2, 11 PD5, 12 PD6, 13 PD7, 14 PB0, 15 PB1, 16 PB2, 17 PB3, 18 PB4, 19 PB5, 20 AVCC, 21 AREF, 22 GND@2, 23 PC0, 24 PC1, 25 PC2, 26 PC3, 27 PC4, 28 PC5

## MCU-ATMEGA1284P-AU(TQFP44)
designator U?, comment 310010020
MPN: ATMEGA1284P-AU
footprint TQFP44-0.8-9.6X9.6MM
pins: 1 PB5(PCINT13/MOS), 2 PB6(PCINT14/MISO), 3 PB7(PCINT15/SCK), 4 !RESET, 5 VCC, 6 GND, 7 XTAL2, 8 XTAL1, 9 PD0(PCINT24/RXD0), 10 PD1(PCINT25/TXD0), 11 PD2(PCINT26/INT0), 12 PD3(PCINT27/TXD1/INT1), 13 PD4(PCINT28/XCK1/OC1B), 14 PD5(PCINT29/OC1A), 15 PD6(PCINT30/OC2B/ICP), 16 PD7(PCINT31/OC2A), 17 VCC@1, 18 GND@1, 19 PC0(PCINT16/SCL), 20 PC1(PCINT17/SDA), 21 PC2(PCINT18/TCK), 22 PC3(PCINT19/TMS), 23 (TDO/PCINT20)PC4, 24 (TDI/PCINT21)PC5, 25 (TOSC1/PCINT22)PC6, 26 (TOSC2/PCINT22)PC7, 27 AVCC, 28 GND@2, 29 AREF, 30 (ADC7/PINT7)PA7, 31 (ADC6/PINT6)PA6, 32 (ADC5/PINT5)PA5, 33 (ADC4/PINT4)PA4, 34 (ADC3/PINT3)PA3, 35 (ADC2/PINT2)PA2, 36 (ADC1/PINT1)PA1, 37 (XCK0/CLKO/PCINT8)PB0, 38 VCC@2, 39 GND@3, 40 (T0/XCK0O/PCINT8)PB0, 41 (T1/CLKO/PCINT9)PB1, 42 (AIN0/INT2/PCINT10)PB2, 43 (AIN1/OCOA/PCINT11)PB3, 44 (SS/OC0B/PCINT12)PB4

## MCU-ATMEGA2560-16AU(TQFP100)
designator U?, comment 310010006
MPN: ATMEGA2560-16AU
footprint TQFP100-0.5-14X14MM
pins: 1 (OC0B)PG5, 2 (RXD0/PCIN8)PE0, 3 (TXD0)PE1, 4 (XCK0/AIN0)PE2, 5 (OC3A/AIN1)PE3, 6 (OC3B/INT4)PE4, 7 (OC3C/INT5)PE5, 8 (T3/INT6)PE6, 9 (CLKO/ICP3/INT7)PE7, 10 VCC (power), 11 GND (power), 12 PH0(RXD2), 13 PH1(TXD2), 14 PH2(XCK2), 15 PH3(OC4A), 16 PH4(OC4B), 17 PH5(OC4C), 18 PH6(OC2B), 19 (SS/PCINT0)PB0, 20 (SCK/PCINT1)PB1, 21 (MOSI/PCINT2)PB2, 22 (MISO/PCINT3)PB3, 23 (OC2A/PCINT4)PB4, 24 (OC1A/PCINT5)PB5, 25 (OC1B/PCINT6)PB6, 26 (OC0A/OC1C/PCINT7)PB7, 27 PH7(T4), 28 (TOSC2)PG3, 29 (TOSC1)PG4, 30 RESET, 31 VCC1 (power), 32 GND1 (power), 33 XTAL2 (out), 34 XTAL1, 35 PL0(ICP4), 36 PL1(ICP5), 37 PL2(T5), 38 PL3(OC5A), 39 PL4(OC5B), 40 PL5(OC5C), 41 PL6, 42 PL7, 43 (SCL/INT0)PD0, 44 (SDA/INT1)PD1, 45 (RXD1/INT2)PD2, 46 (TXD1/INT3)PD3, 47 (ICP1)PD4, 48 (XCK1)PD5, 49 (T1)PD6, 50 (T0)PD7, 51 (WR)PG0, 52 (RD)PG1, 53 (A8)PC0, 54 (A9)PC1, 55 (A10)PC2, 56 (A11)PC3, 57 (A12)PC4, 58 (A13)PC5, 59 (A14)PC6, 60 (A15)PC7, 61 VCC2 (power), 62 GND2 (power), 63 PJ0(RXD3/PCINT9), 64 PJ1(TXD3/PCINT10), 65 PJ2(XCK3/PCINT11), 66 PJ3(PCINT12), 67 PJ4(PCINT13), 68 PJ5(PCINT14), 69 PJ6(PCINT15), 70 (ALE)PG2, 71 (AD7)PA7, 72 (AD6)PA6, 73 (AD5)PA5, 74 (AD4)PA4, 75 (AD3)PA3, 76 (AD2)PA2, 77 (AD1)PA1, 78 (AD0)PA0, 79 PJ7, 80 VCC3 (power), 81 GND3 (power), 82 PK7(ADC15/PCINT23), 83 PK6(ADC14/PCINT22), 84 PK5(ADC13/PCINT21), 85 PK4(ADC12/PCINT20), 86 PK3(ADC11/PCINT19), 87 PK2(ADC10/PCINT18), 88 PK1(ADC9/PCINT17), 89 PK0(ADC8/PCINT16), 90 (ADC7/TDI)PF7, 91 (ADC6/TDO)PF6, 92 (ADC5/TMS)PF5, 93 (ADC4/TCK)PF4, 94 (ADC3)PF3, 95 (ADC2)PF2, 96 (ADC1)PF1, 97 (ADC0)PF0, 98 AREF, 99 AGND (power), 100 AVCC (power)

## MCU-ATMEGA2561-16MU(QFN64)
designator U?, comment 310010130
MPN: ATMEGA2561-16MU
footprint QFN64G-0.5-9X9MM
pins: 1 PG5(OC0B), 2 PE0(RXD0/PCINT8/PDI), 3 PE1(TXD0/PDO), 4 PE2(XCK0/AIN0), 5 PE3(OC3A/AIN1), 6 PE4(OC3B/INT4), 7 PE5(OC3C/INT5), 8 PE6(T3/INT6), 9 PE7(ICP3/CLK0/INT7), 10 PB0(PCINT0/!SS), 11 PB1(SCK/PCINT1), 12 PB2(MOSI/PCINT2), 13 PB3(MISO/PCINT3), 14 PB4(OC2A/PCINT4), 15 PB5(OC1A/PCINT5), 16 PB6(OC1B/PCINT6), 17 PB7(OC0A/OC1C/PCINT7), 18 PG3(TOSC2), 19 PG4(TOSC1), 20 !RESET, 21 VCC, 22 GND, 23 XTAL2, 24 XTAL1, 25 PD0(SCL/INT0), 26 PD1(SDA/INT1), 27 PD2(RXD1/INT2), 28 PD3(TXD1/INT3), 29 PD4(ICP1), 30 PD5(XCK1), 31 PD6(T1), 32 PD7(T0), 33 PG0(!WR), 34 PG1(!RD), 35 PC0(A8), 36 PC1(A9), 37 PC2(A10), 38 PC3(A11), 39 PC4(A12), 40 PC5(A13), 41 PC6(A14), 42 PC7(A15), 43 PG2(ALE), 44 PA7(AD7), 45 PA6(AD6), 46 PA5(AD5), 47 PA4(AD4), 48 PA3(AD3), 49 PA2(AD2), 50 PA1(AD1), 51 PA0(AD0), 52 VCC@1, 53 GND@1, 54 PF7(ADC7/TDI), 55 PF6(ADC6/TDO), 56 PF5(ADC5/TMS), 57 PF4(ADC4/TCK), 58 PF3(ADC3), 59 PF2(ADC2), 60 PF1(ADC1), 61 PF0(ADC0), 62 AREF, 63 GND@2, 64 AVCC, 65 PAD

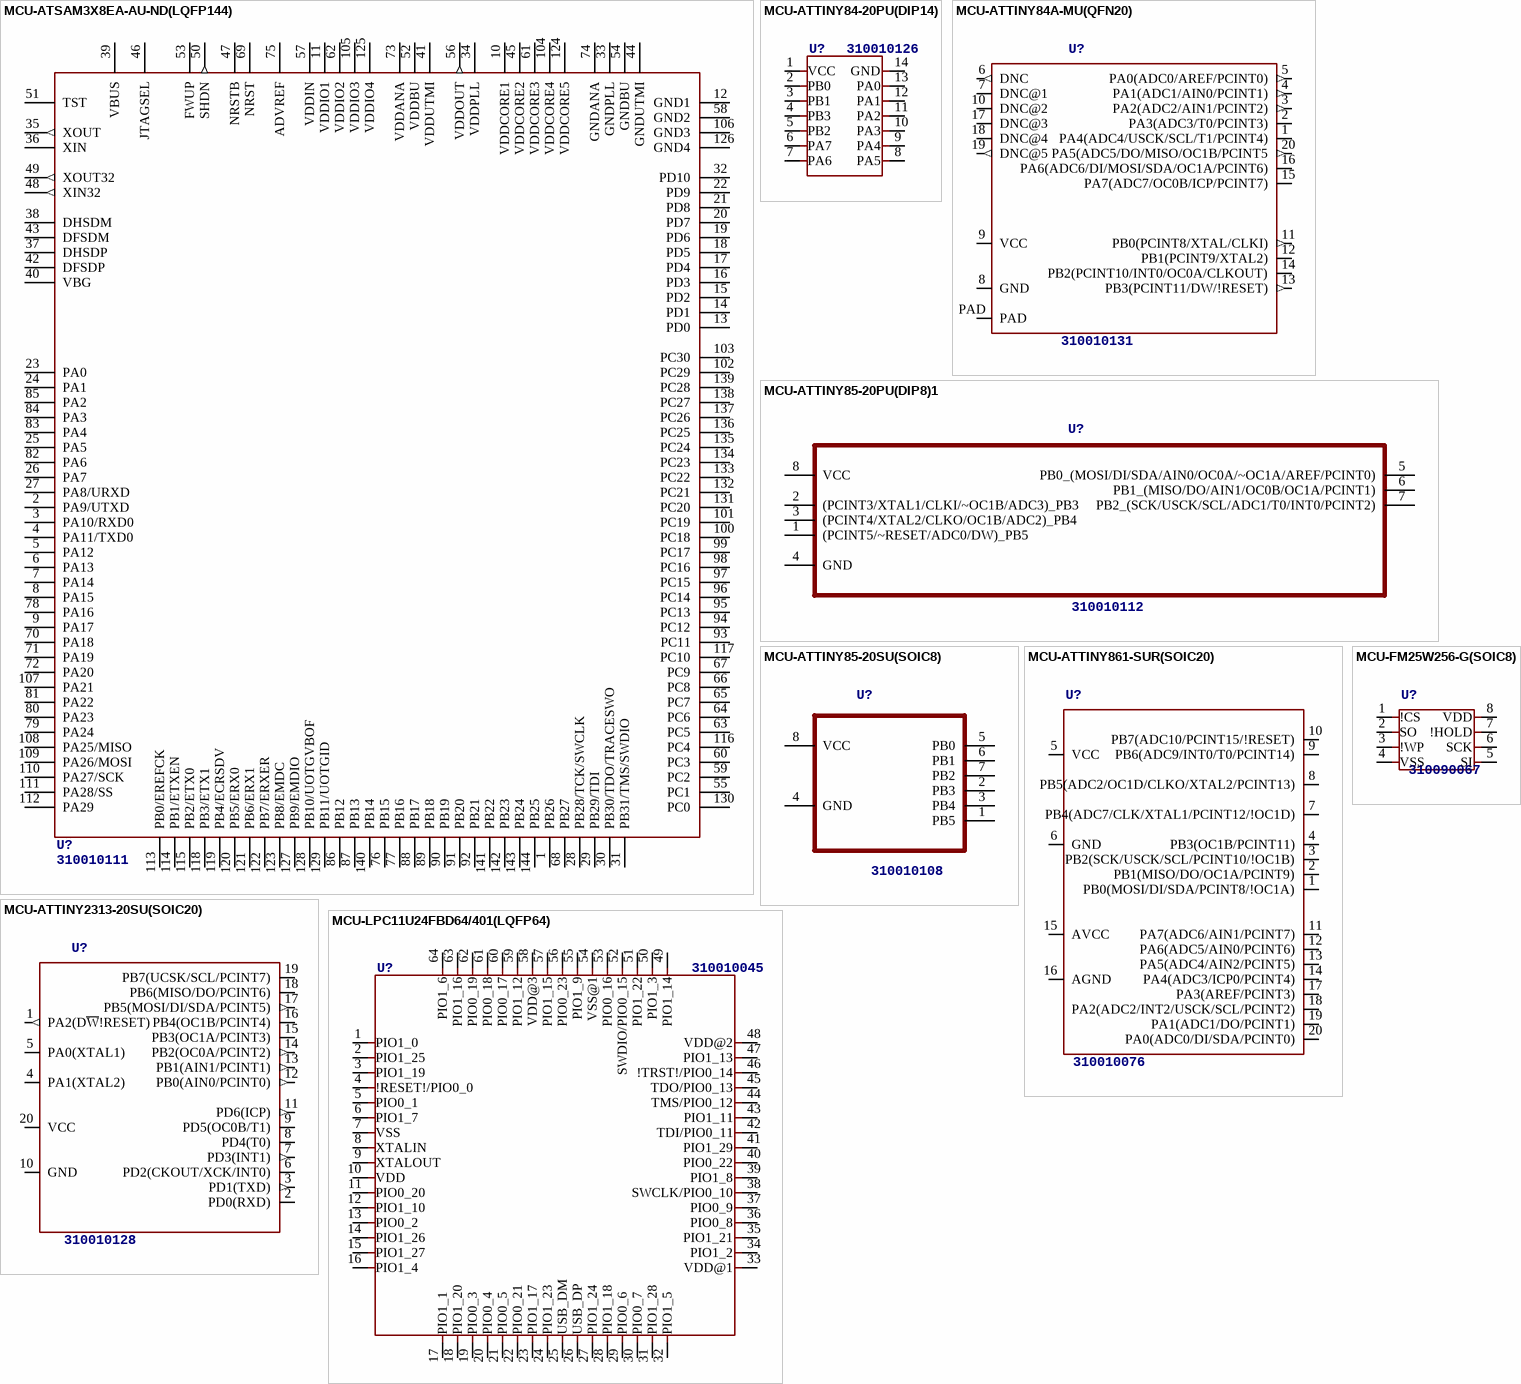
[diagram p6: symbols MCU-ATSAM3X8EA-AU-ND(LQFP144) to MCU-LPC11U24FBD64/401(LQFP64)]

## MCU-ATSAM3X8EA-AU-ND(LQFP144)
designator U?, comment 310010111
MPN: ATSAM3X8EA-AU-ND
footprint LQFP144-0.5-20X20M
pins: 1 PB26, 2 PA9/UTXD, 3 PA10/RXD0, 4 PA11/TXD0, 5 PA12, 6 PA13, 7 PA14, 8 PA15, 9 PA17, 10 VDDCORE1, 11 VDDIO1 (power), 12 GND1 (power), 13 PD0, 14 PD1, 15 PD2, 16 PD3, 17 PD4, 18 PD5, 19 PD6, 20 PD7, 21 PD8, 22 PD9, 23 PA0, 24 PA1, 25 PA5, 26 PA7, 27 PA8/URXD, 28 PB28/TCK/SWCLK, 29 PB29/TDI, 30 PB30/TDO/TRACESWO, 31 PB31/TMS/SWDIO, 32 PD10, 33 GNDPLL (power), 34 VDDPLL, 35 XOUT (out), 36 XIN, 37 DHSDP, 38 DHSDM, 39 VBUS (power), 40 VBG, 41 VDDUTMI, 42 DFSDP, 43 DFSDM, 44 GNDUTMI (power), 45 VDDCORE2, 46 JTAGSEL, 47 NRSTB, 48 XIN32 (out), 49 XOUT32 (out), 50 SHDN (out), 51 TST, 52 VDDBU (power), 53 FWUP, 54 GNDBU (power), 55 PC1, 56 VDDOUT (out), 57 VDDIN (power), 58 GND2 (power), 59 PC2, 60 PC3, 61 VDDCORE3, 62 VDDIO2 (power), 63 PC5, 64 PC6, 65 PC7, 66 PC8, 67 PC9, 68 PB27, 69 NRST, 70 PA18, 71 PA19, 72 PA20, 73 VDDANA (power), 74 GNDANA (power), 75 ADVREF (power), 76 PB15, 77 PB16, 78 PA16, 79 PA24, 80 PA23, 81 PA22, 82 PA6, 83 PA4, 84 PA3, 85 PA2, 86 PB12, 87 PB13, 88 PB17, 89 PB18, 90 PB19, 91 PB20, 92 PB21, 93 PC11, 94 PC12, 95 PC13, 96 PC14, 97 PC15, 98 PC16, 99 PC17, 100 PC18, 101 PC19, 102 PC29, 103 PC30, 104 VDDCORE4, 105 VDDIO3 (power), 106 GND3 (power), 107 PA21, 108 PA25/MISO, 109 PA26/MOSI, 110 PA27/SCK, 111 PA28/SS, 112 PA29, 113 PB0/EREFCK, 114 PB1/ETXEN, 115 PB2/ETX0, 116 PC4, 117 PC10, 118 PB3/ETX1, 119 PB4/ECRSDV, 120 PB5/ERX0, 121 PB6/ERX1, 122 PB7/ERXER, 123 PB8/EMDC, 124 VDDCORE5, 125 VDDIO4 (power), 126 GND4 (power), 127 PB9/EMDIO, 128 PB10/UOTGVBOF, 129 PB11/UOTGID, 130 PC0, 131 PC20, 132 PC21, 133 PC22, 134 PC23, 135 PC24, 136 PC25, 137 PC26, 138 PC27, 139 PC28, 140 PB14, 141 PB22, 142 PB23, 143 PB24, 144 PB25

## MCU-ATTINY84-20PU(DIP14)
designator U?, comment 310010126
MPN: ATTINY84-20PU
footprint DIP14-2.54-17.24X6.35MM
pins: 1 VCC, 2 PB0, 3 PB1, 4 PB3, 5 PB2, 6 PA7, 7 PA6, 8 PA5, 9 PA4, 10 PA3, 11 PA2, 12 PA1, 13 PA0, 14 GND

## MCU-ATTINY84A-MU(QFN20)
designator U?, comment 310010131
MPN: ATTINY84A-MU
footprint QFN20G-0.5-4X4MM
pins: 1 PA4(ADC4/USCK/SCL/T1/PCINT4), 2 PA3(ADC3/T0/PCINT3), 3 PA2(ADC2/AIN1/PCINT2) (out), 4 PA1(ADC1/AIN0/PCINT1) (out), 5 PA0(ADC0/AREF/PCINT0) (out), 6 DNC (out), 7 DNC@1, 8 GND, 9 VCC (oe), 10 DNC@2, 11 PB0(PCINT8/XTAL/CLKI) (out), 12 PB1(PCINT9/XTAL2), 13 PB3(PCINT11/DW/!RESET) (out), 14 PB2(PCINT10/INT0/OC0A/CLKOUT), 15 PA7(ADC7/OC0B/ICP/PCINT7), 16 PA6(ADC6/DI/MOSI/SDA/OC1A/PCINT6), 17 DNC@3, 18 DNC@4, 19 DNC@5 (out), 20 PA5(ADC5/DO/MISO/OC1B/PCINT5 (out), PAD

## MCU-ATTINY85-20PU(DIP8)1
designator U?, comment 310010112
MPN: ATTINY85-20PU
footprint DIP254P762X533-8
pins: 1 (PCINT5/~RESET/ADC0/DW)_PB5, 2 (PCINT3/XTAL1/CLKI/~OC1B/ADC3)_PB3, 3 (PCINT4/XTAL2/CLKO/OC1B/ADC2)_PB4, 4 GND, 5 PB0_(MOSI/DI/SDA/AIN0/OC0A/~OC1A/AREF/PCINT0), 6 PB1_(MISO/DO/AIN1/OC0B/OC1A/PCINT1), 7 PB2_(SCK/USCK/SCL/ADC1/T0/INT0/PCINT2), 8 VCC (power)

## MCU-ATTINY85-20SU(SOIC8)
designator U?, comment 310010108
MPN: ATTINY85-20SU
footprint SOIC8-1.27-5.3X5.3MM
pins: 1 PB5, 2 PB3, 3 PB4, 4 GND, 5 PB0, 6 PB1, 7 PB2, 8 VCC (power)

## MCU-ATTINY861-SUR(SOIC20)
designator U?, comment 310010076
MPN: ATTINY861A-SUR
footprint SOIC20-1.27-12.5X7.5MM
pins: 1 PB0(MOSI/DI/SDA/PCINT8/!OC1A), 2 PB1(MISO/DO/OC1A/PCINT9), 3 PB2(SCK/USCK/SCL/PCINT10/!OC1B), 4 PB3(OC1B/PCINT11), 5 VCC (power), 6 GND (oe), 7 PB4(ADC7/CLK/XTAL1/PCINT12/!OC1D), 8 PB5(ADC2/OC1D/CLKO/XTAL2/PCINT13), 9 PB6(ADC9/INT0/T0/PCINT14), 10 PB7(ADC10/PCINT15/!RESET), 11 PA7(ADC6/AIN1/PCINT7), 12 PA6(ADC5/AIN0/PCINT6), 13 PA5(ADC4/AIN2/PCINT5), 14 PA4(ADC3/ICP0/PCINT4), 15 AVCC (power), 16 AGND (oe), 17 PA3(AREF/PCINT3), 18 PA2(ADC2/INT2/USCK/SCL/PCINT2), 19 PA1(ADC1/DO/PCINT1), 20 PA0(ADC0/DI/SDA/PCINT0)

## MCU-ATTINY2313-20SU(SOIC20)
designator U?, comment 310010128
MPN: ATTINY2313-20SU
footprint SOIC20-1.27-12.5X7.5MM
pins: 1 PA2(D~{W}!RESET) (out), 2 PD0(RXD), 3 PD1(TXD) (out), 4 PA1(XTAL2), 5 PA0(XTAL1), 6 PD2(CKOUT/XCK/INT0), 7 PD3(INT1) (out), 8 PD4(T0), 9 PD5(OC0B/T1), 10 GND, 11 PD6(ICP) (out), 12 PB0(AIN0/PCINT0) (out), 13 PB1(AIN1/PCINT1) (out), 14 PB2(OC0A/PCINT2) (out), 15 PB3(OC1A/PCINT3), 16 PB4(OC1B/PCINT4), 17 PB5(MOSI/DI/SDA/PCINT5) (out), 18 PB6(MISO/DO/PCINT6), 19 PB7(UCSK/SCL/PCINT7), 20 VCC (oe)

## MCU-FM25W256-G(SOIC8)
designator U?, comment 310090067
MPU: FM25W256-G
footprint SOIC8-1.27-5X4MM
pins: 1 !CS, 2 SO, 3 !WP, 4 VSS, 5 SI, 6 SCK, 7 !HOLD, 8 VDD

## MCU-LPC11U24FBD64/401(LQFP64)
designator U?, comment 310010045
MPN: LPC11U24FBD64/401
footprint LQFP64-0.5-10X10MM
pins: 1 PIO1_0, 2 PIO1_25, 3 PIO1_19, 4 !RESET!/PIO0_0, 5 PIO0_1, 6 PIO1_7, 7 VSS, 8 XTALIN, 9 XTALOUT, 10 VDD, 11 PIO0_20, 12 PIO1_10, 13 PIO0_2, 14 PIO1_26, 15 PIO1_27, 16 PIO1_4, 17 PIO1_1, 18 PIO1_20, 19 PIO0_3, 20 PIO0_4, 21 PIO0_5, 22 PIO0_21, 23 PIO1_17, 24 PIO1_23, 25 USB_DM, 26 USB_DP, 27 PIO1_24, 28 PIO1_18, 29 PIO0_6, 30 PIO0_7, 31 PIO1_28, 32 PIO1_5, 33 VDD@1, 34 PIO1_2, 35 PIO1_21, 36 PIO0_8, 37 PIO0_9, 38 SWCLK/PIO0_10, 39 PIO1_8, 40 PIO0_22, 41 PIO1_29, 42 TDI/PIO0_11, 43 PIO1_11, 44 TMS/PIO0_12, 45 TDO/PIO0_13, 46 !TRST!/PIO0_14, 47 PIO1_13, 48 VDD@2, 49 PIO1_14, 50 PIO1_3, 51 PIO1_22, 52 SWDIO/PIO0_15, 53 PIO0_16, 54 VSS@1, 55 PIO1_9, 56 PIO0_23, 57 PIO1_15, 58 VDD@3, 59 PIO1_12, 60 PIO0_17, 61 PIO0_18, 62 PIO0_19, 63 PIO1_16, 64 PIO1_6

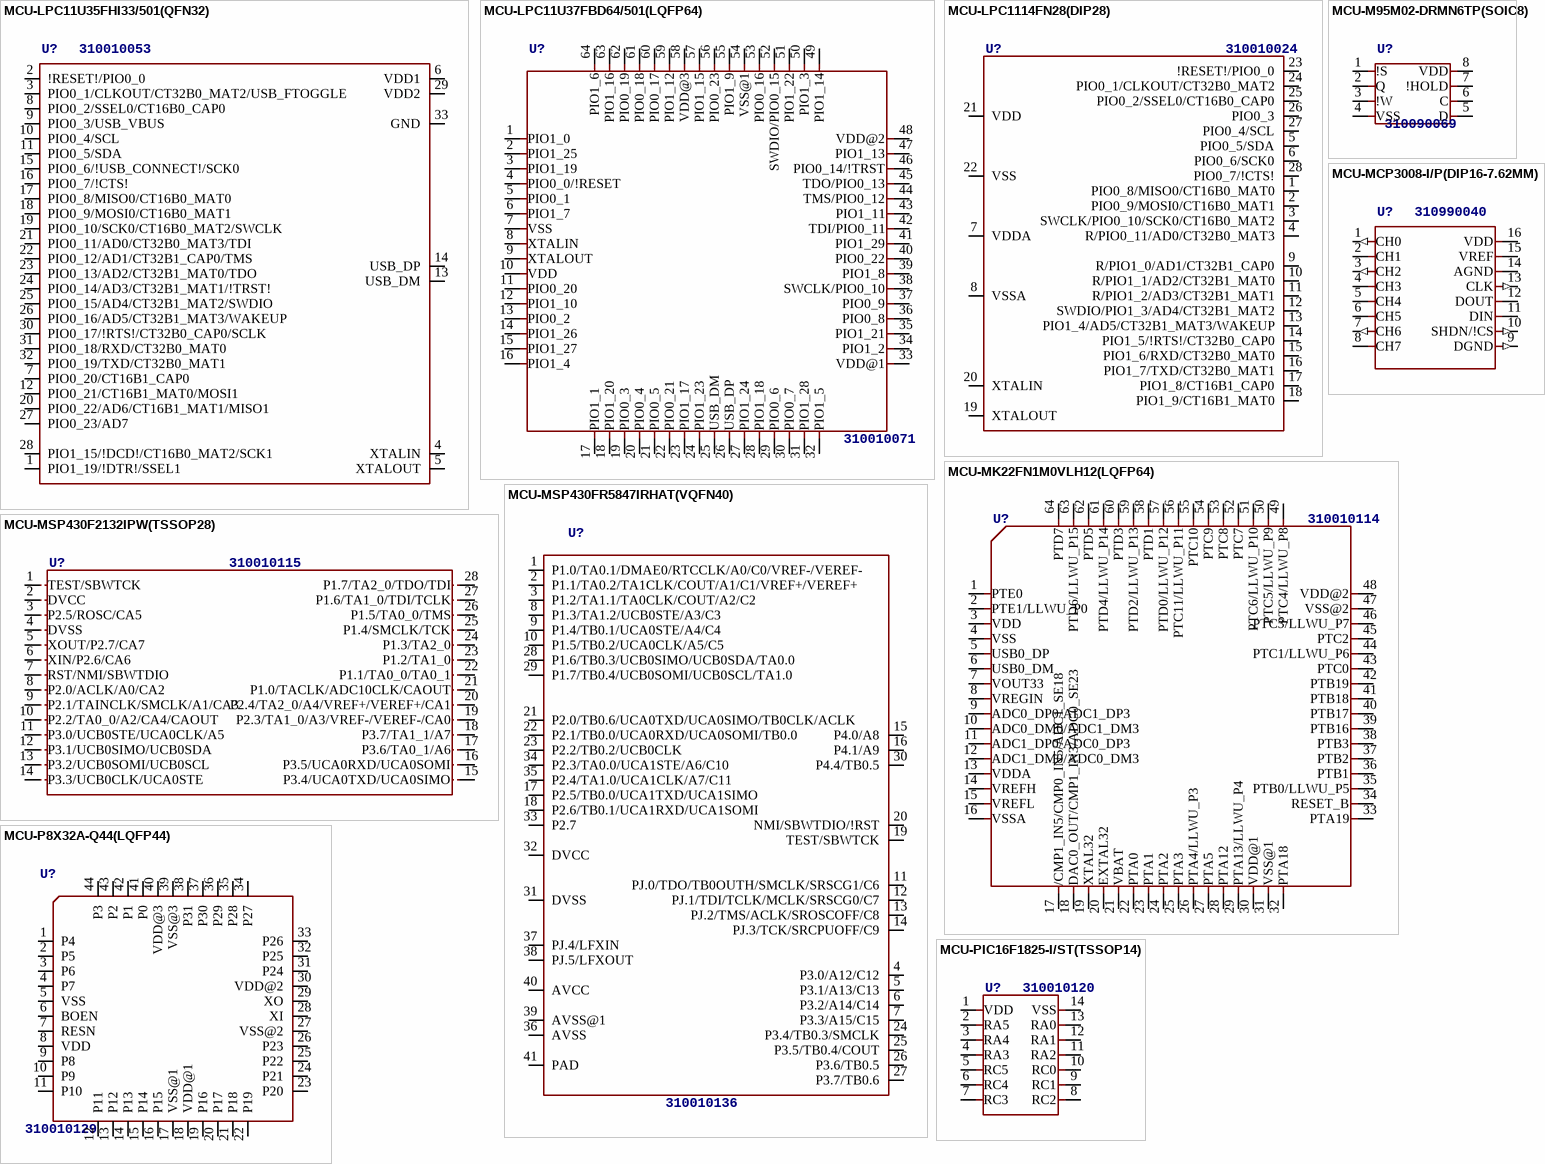
[diagram p7: symbols MCU-LPC11U35FHI33/501(QFN32) to MCU-PIC16F1825-I/ST(TSSOP14)]

## MCU-LPC11U35FHI33/501(QFN32)
designator U?, comment 310010053
MPN: LPC11U35FHI33/501
footprint QFN32G-0.5-5X5MM
pins: 1 PIO1_19/!DTR!/SSEL1, 2 !RESET!/PIO0_0, 3 PIO0_1/CLKOUT/CT32B0_MAT2/USB_FTOGGLE, 4 XTALIN, 5 XTALOUT, 6 VDD1, 7 PIO0_20/CT16B1_CAP0, 8 PIO0_2/SSEL0/CT16B0_CAP0, 9 PIO0_3/USB_VBUS, 10 PIO0_4/SCL, 11 PIO0_5/SDA, 12 PIO0_21/CT16B1_MAT0/MOSI1, 13 USB_DM, 14 USB_DP, 15 PIO0_6/!USB_CONNECT!/SCK0, 16 PIO0_7/!CTS!, 17 PIO0_8/MISO0/CT16B0_MAT0, 18 PIO0_9/MOSI0/CT16B0_MAT1, 19 PIO0_10/SCK0/CT16B0_MAT2/SWCLK, 20 PIO0_22/AD6/CT16B1_MAT1/MISO1, 21 PIO0_11/AD0/CT32B0_MAT3/TDI, 22 PIO0_12/AD1/CT32B1_CAP0/TMS, 23 PIO0_13/AD2/CT32B1_MAT0/TDO, 24 PIO0_14/AD3/CT32B1_MAT1/!TRST!, 25 PIO0_15/AD4/CT32B1_MAT2/SWDIO, 26 PIO0_16/AD5/CT32B1_MAT3/WAKEUP, 27 PIO0_23/AD7, 28 PIO1_15/!DCD!/CT16B0_MAT2/SCK1, 29 VDD2, 30 PIO0_17/!RTS!/CT32B0_CAP0/SCLK, 31 PIO0_18/RXD/CT32B0_MAT0, 32 PIO0_19/TXD/CT32B0_MAT1, 33 GND

## MCU-LPC11U37FBD64/501(LQFP64)
designator U?, comment 310010071
MPN: LPC11U37FBD64/501
footprint LQFP64-0.5-10X10MM
pins: 1 PIO1_0, 2 PIO1_25, 3 PIO1_19, 4 PIO0_0/!RESET, 5 PIO0_1, 6 PIO1_7, 7 VSS (oe), 8 XTALIN, 9 XTALOUT, 10 VDD (power), 11 PIO0_20, 12 PIO1_10, 13 PIO0_2, 14 PIO1_26, 15 PIO1_27, 16 PIO1_4, 17 PIO1_1, 18 PIO1_20, 19 PIO0_3, 20 PIO0_4, 21 PIO0_5, 22 PIO0_21, 23 PIO1_17, 24 PIO1_23, 25 USB_DM, 26 USB_DP, 27 PIO1_24, 28 PIO1_18, 29 PIO0_6, 30 PIO0_7, 31 PIO1_28, 32 PIO1_5, 33 VDD@1 (power), 34 PIO1_2, 35 PIO1_21, 36 PIO0_8, 37 PIO0_9, 38 SWCLK/PIO0_10, 39 PIO1_8, 40 PIO0_22, 41 PIO1_29, 42 TDI/PIO0_11, 43 PIO1_11, 44 TMS/PIO0_12, 45 TDO/PIO0_13, 46 PIO0_14/!TRST, 47 PIO1_13, 48 VDD@2 (power), 49 PIO1_14, 50 PIO1_3, 51 PIO1_22, 52 SWDIO/PIO0_15, 53 PIO0_16, 54 VSS@1, 55 PIO1_9, 56 PIO0_23, 57 PIO1_15, 58 VDD@3 (power), 59 PIO1_12, 60 PIO0_17, 61 PIO0_18, 62 PIO0_19, 63 PIO1_16, 64 PIO1_6

## MCU-LPC1114FN28(DIP28)
designator U?, comment 310010024
MPN: LPC1114FN28
footprint DIP28-2.54-35.6X13.5MM
pins: 1 PIO0_8/MISO0/CT16B0_MAT0, 2 PIO0_9/MOSI0/CT16B0_MAT1, 3 SWCLK/PIO0_10/SCK0/CT16B0_MAT2, 4 R/PIO0_11/AD0/CT32B0_MAT3, 5 PIO0_5/SDA, 6 PIO0_6/SCK0, 7 VDDA (power), 8 VSSA (power), 9 R/PIO1_0/AD1/CT32B1_CAP0, 10 R/PIO1_1/AD2/CT32B1_MAT0, 11 R/PIO1_2/AD3/CT32B1_MAT1, 12 SWDIO/PIO1_3/AD4/CT32B1_MAT2, 13 PIO1_4/AD5/CT32B1_MAT3/WAKEUP, 14 PIO1_5/!RTS!/CT32B0_CAP0, 15 PIO1_6/RXD/CT32B0_MAT0, 16 PIO1_7/TXD/CT32B0_MAT1, 17 PIO1_8/CT16B1_CAP0, 18 PIO1_9/CT16B1_MAT0, 19 XTALOUT, 20 XTALIN, 21 VDD (power), 22 VSS (power), 23 !RESET!/PIO0_0, 24 PIO0_1/CLKOUT/CT32B0_MAT2, 25 PIO0_2/SSEL0/CT16B0_CAP0, 26 PIO0_3, 27 PIO0_4/SCL, 28 PIO0_7/!CTS!